# Altium schematic symbol library analog-devices.SCHLIB: 264 symbols (part 3 of 4)
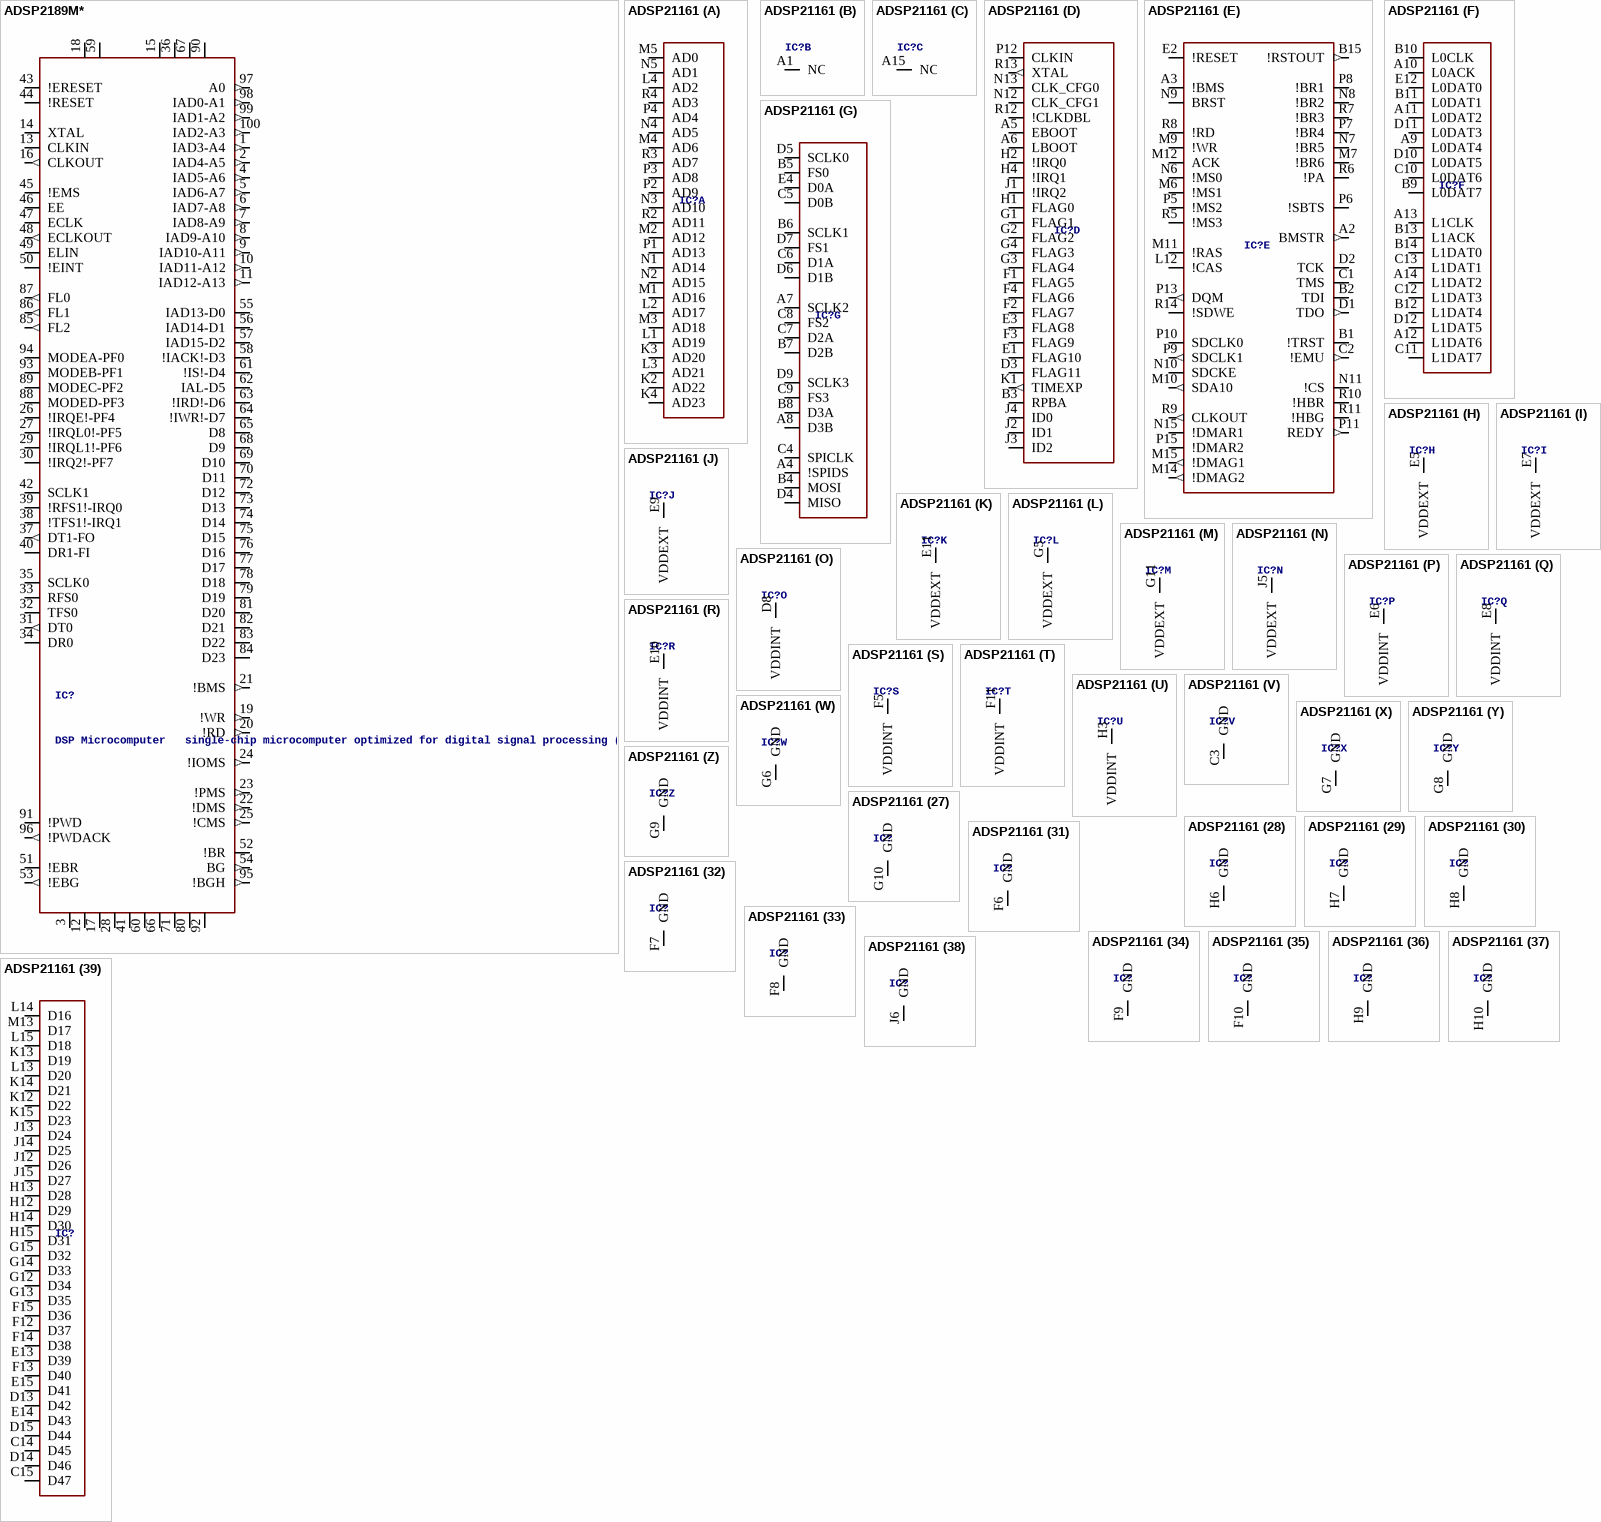
[diagram p41: symbols ADSP2189M* to ADSP21161]

## ADSP2189M*
designator IC?, comment DSP Microcomputer   single-chip microcomputer optimized for digital signal processing (DSP)
MPN: ADSP-2189MBST-266; MPN: ADSP-2189MKST-300; MF: ALTERA CORPORATION; OC_FARNELL: 1465571; OC_NEWARK: 98B1516; OC_FARNELL: 1465572; OC_NEWARK: 98B7141
footprint LQFP100
pins: 1 IAD3-A4 (out), 2 IAD4-A5 (out), 3 GND (power), 4 IAD5-A6 (out), 5 IAD6-A7 (out), 6 IAD7-A8 (out), 7 IAD8-A9 (out), 8 IAD9-A10 (out), 9 IAD10-A11 (out), 10 IAD11-A12 (out), 11 IAD12-A13 (out), 12 GND@1 (power), 13 CLKIN, 14 XTAL, 15 VDDEXT (power), 16 CLKOUT (out), 17 GND@2 (power), 18 VDDINT (power), 19 !WR (out), 20 !RD (out), 21 !BMS (out), 22 !DMS (out), 23 !PMS (out), 24 !IOMS (out), 25 !CMS (out), 26 !IRQE!-PF4, 27 !IRQL0!-PF5, 28 GND@3 (power), 29 !IRQL1!-PF6, 30 !IRQ2!-PF7, 31 DT0 (out), 32 TFS0, 33 RFS0, 34 DR0, 35 SCLK0, 36 VDDEXT@1 (power), 37 DT1-FO (out), 38 !TFS1!-IRQ1, 39 !RFS1!-IRQ0, 40 DR1-FI, 41 GND@4 (power), 42 SCLK1, 43 !ERESET, 44 !RESET, 45 !EMS, 46 EE, 47 ECLK, 48 ECLKOUT (out), 49 ELIN, 50 !EINT, 51 !EBR, 52 !BR, 53 !EBG (out), 54 BG (out), 55 IAD13-D0, 56 IAD14-D1, 57 IAD15-D2, 58 !IACK!-D3, 59 VDDINT@1 (power), 60 GND@5 (power), 61 !IS!-D4, 62 IAL-D5, 63 !IRD!-D6, 64 !IWR!-D7, 65 D8, 66 GND@6 (power), 67 VDDEXT@2 (power), 68 D9, 69 D10, 70 D11, 71 GND@7 (power), 72 D12, 73 D13, 74 D14, 75 D15, 76 D16, 77 D17, 78 D18, 79 D19, 80 GND@8 (power), 81 D20, 82 D21, 83 D22, 84 D23, 85 FL2 (out), 86 FL1 (out), 87 FL0 (out), 88 MODED-PF3, 89 MODEC-PF2, 90 VDDEXT@3 (power), 91 !PWD, 92 GND@9 (power), 93 MODEB-PF1, 94 MODEA-PF0, 95 !BGH (out), 96 !PWDACK (out), 97 A0 (out), 98 IAD0-A1 (out), 99 IAD1-A2 (out), 100 IAD2-A3 (out)

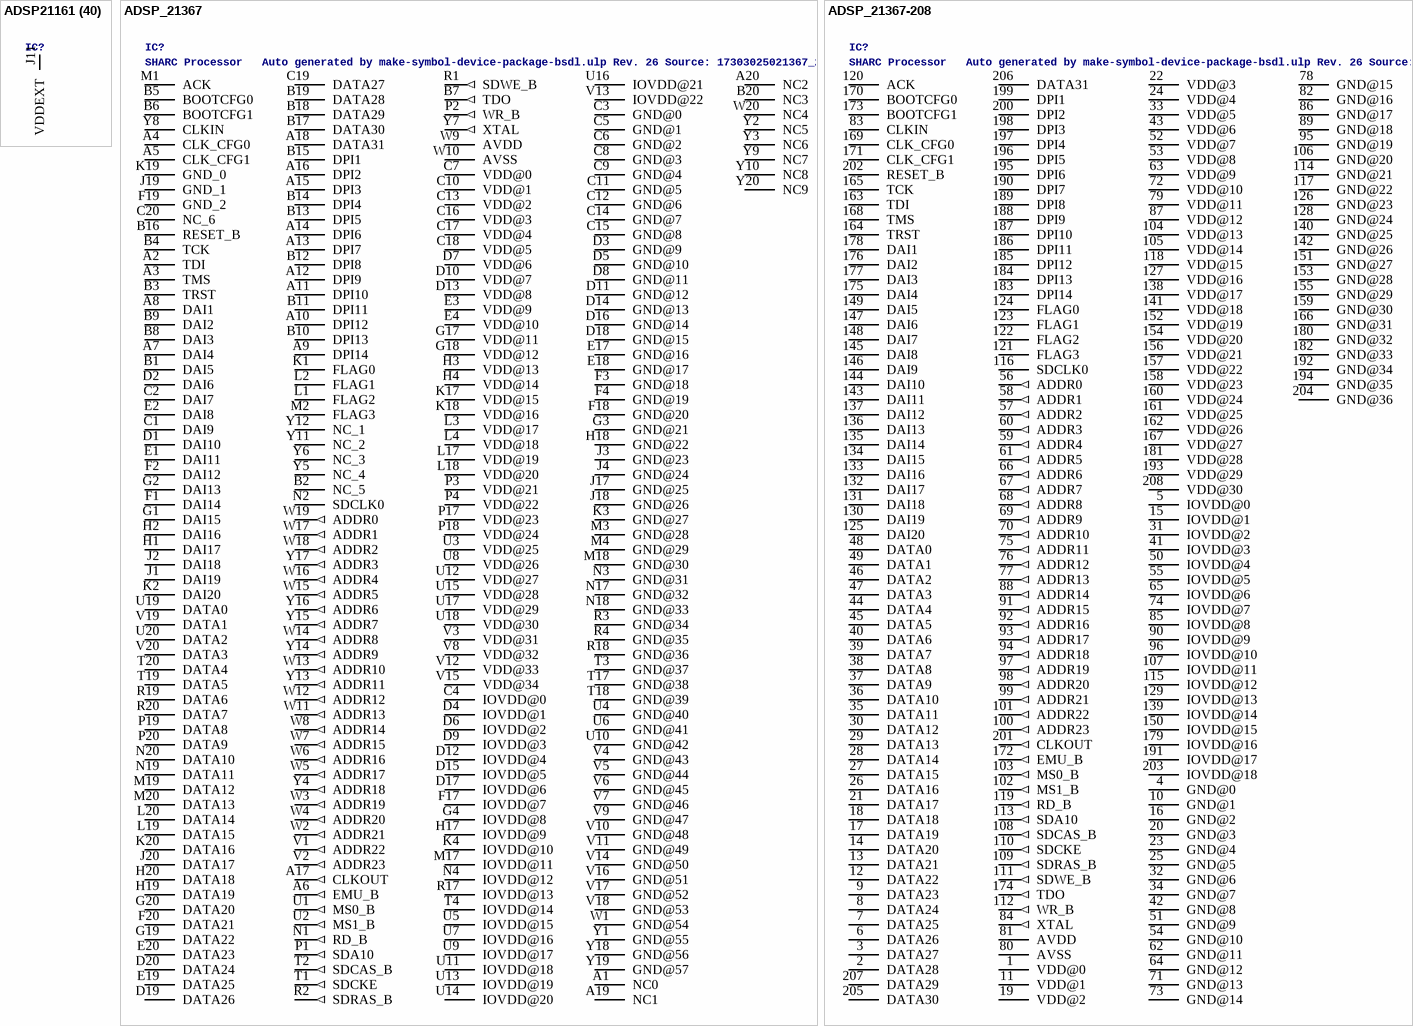
[diagram p25: symbols ADSP21161 to ADSP_21367-208]

## ADSP21161
designator IC?, comment DSP Microcomputer  (value not drawn)
MPN: ADSP-21161NCCA-100; MF: ALTERA CORPORATION; OC_FARNELL: 1465539; OC_NEWARK: 02H1229
footprint MBGA225
part A pins: K2 AD22 (hiz), K3 AD20 (hiz), K4 AD23 (hiz), L1 AD19 (hiz), L2 AD17 (hiz), L3 AD21 (hiz), L4 AD2 (hiz), M1 AD16 (hiz), M2 AD12 (hiz), M3 AD18 (hiz), M4 AD6 (hiz), M5 AD0 (hiz), N1 AD14 (hiz), N2 AD15 (hiz), N3 AD10 (hiz), N4 AD5 (hiz), N5 AD1 (hiz), P1 AD13 (hiz), P2 AD9 (hiz), P3 AD8 (hiz), P4 AD4 (hiz), R2 AD11 (hiz), R3 AD7 (hiz), R4 AD3 (hiz)
part B pins: A1 NC
part C pins: A15 NC
part D pins: A5 EBOOT, A6 LBOOT, B3 RPBA, D3 FLAG11, E1 FLAG10, E3 FLAG8, F1 FLAG5, F2 FLAG7, F3 FLAG9, F4 FLAG6, G1 FLAG1, G2 FLAG2, G3 FLAG4, G4 FLAG3, H1 FLAG0, H2 !IRQ0, H4 !IRQ1, J1 !IRQ2, J2 ID1, J3 ID2, J4 ID0, K1 TIMEXP (out), N12 CLK_CFG1, N13 CLK_CFG0, P12 CLKIN, R12 !CLKDBL, R13 XTAL (out)
part E pins: A2 BMSTR (out), A3 !BMS, B1 !TRST, B2 TDI, B15 !RSTOUT (out), C1 TMS, C2 !EMU (out), D1 TDO (out), D2 TCK, E2 !RESET, L12 !CAS, M6 !MS1 (hiz), M7 !BR6, M9 !WR (hiz), M10 SDA10 (out), M11 !RAS, M12 ACK, M14 !DMAG2 (out), M15 !DMAG1 (out), N6 !MS0 (hiz), N7 !BR5, N8 !BR2, N9 BRST (hiz), N10 SDCKE, N11 !CS, N15 !DMAR1, P5 !MS2 (hiz), P6 !SBTS, P7 !BR4, P8 !BR1, P9 SDCLK1 (out), P10 SDCLK0, P11 REDY (out), P13 DQM (out), P15 !DMAR2, R5 !MS3 (hiz), R6 !PA, R7 !BR3, R8 !RD (hiz), R9 CLKOUT (out), R10 !HBR, R11 !HBG, R14 !SDWE
part F pins: A9 L0DAT4, A10 L0ACK, A11 L0DAT2, A12 L1DAT6, A13 L1CLK, A14 L1DAT2, B9 L0DAT7, B10 L0CLK, B11 L0DAT1, B12 L1DAT4, B13 L1ACK, B14 L1DAT0, C10 L0DAT6, C11 L1DAT7, C12 L1DAT3, C13 L1DAT1, D10 L0DAT5, D11 L0DAT3, D12 L1DAT5, E12 L0DAT0
part G pins: A4 !SPIDS, A7 SCLK2, A8 D3B, B4 MOSI, B5 FS0, B6 SCLK1, B7 D2B, B8 D3A, C4 SPICLK, C5 D0B, C6 D1A, C7 D2A, C8 FS2, C9 FS3, D4 MISO, D5 SCLK0, D6 D1B, D7 FS1, D9 SCLK3, E4 D0A
part H pins: E5 VDDEXT (power)
part I pins: E7 VDDEXT (power)
part J pins: E9 VDDEXT (power)
part K pins: E11 VDDEXT (power)
part L pins: G5 VDDEXT (power)
part M pins: G11 VDDEXT (power)
part N pins: J5 VDDEXT (power)
part O pins: D8 VDDINT (power)
part P pins: E6 VDDINT (power)
part Q pins: E8 VDDINT (power)
part R pins: E10 VDDINT (power)
part S pins: F5 VDDINT (power)
part T pins: F11 VDDINT (power)
part U pins: H3 VDDINT (power)
part V pins: C3 GND (power)
part W pins: G6 GND (power)
part X pins: G7 GND (power)
part Y pins: G8 GND (power)
part Z pins: G9 GND (power)
part 27 pins: G10 GND (power)
part 28 pins: H6 GND (power)
part 29 pins: H7 GND (power)
part 30 pins: H8 GND (power)
part 31 pins: F6 GND (power)
part 32 pins: F7 GND (power)
part 33 pins: F8 GND (power)
part 34 pins: F9 GND (power)
part 35 pins: F10 GND (power)
part 36 pins: H9 GND (power)
part 37 pins: H10 GND (power)
part 38 pins: J6 GND (power)
part 39 pins: C14 D45 (hiz), C15 D47 (hiz), D13 D42 (hiz), D14 D46 (hiz), D15 D44 (hiz), E13 D39 (hiz), E14 D43 (hiz), E15 D41 (hiz), F12 D37 (hiz), F13 D40 (hiz), F14 D38 (hiz), F15 D36 (hiz), G12 D34 (hiz), G13 D35 (hiz), G14 D33 (hiz), G15 D32 (hiz), H12 D29 (hiz), H13 D28 (hiz), H14 D30 (hiz), H15 D31 (hiz), J12 D26 (hiz), J13 D24 (hiz), J14 D25 (hiz), J15 D27 (hiz), K12 D22 (hiz), K13 D19 (hiz), K14 D21 (hiz), K15 D23 (hiz), L13 D20 (hiz), L14 D16 (hiz), L15 D18 (hiz), M13 D17 (hiz)
part 40 pins: J11 VDDEXT (power)
part 41 pins: L5 VDDEXT (power)
part 42 pins: L7 VDDEXT (power)
part 43 pins: L9 VDDEXT (power)
part 44 pins: L11 VDDEXT (power)
part 45 pins: H5 VDDINT (power)
part 46 pins: H11 VDDINT (power)
part 47 pins: K5 VDDINT (power)
part 48 pins: K11 VDDINT (power)
part 49 pins: L6 VDDINT (power)
part 50 pins: L8 VDDINT (power)
part 51 pins: J7 GND (power)
part 52 pins: J8 GND (power)
part 53 pins: J9 GND (power)
part 54 pins: J10 GND (power)
part 55 pins: K6 GND (power)
part 56 pins: K7 GND (power)
part 57 pins: K8 GND (power)
part 58 pins: K9 GND (power)
part 59 pins: K10 GND (power)
part 60 pins: M8 VDDEXT (power)
part 61 pins: L10 VDDINT (power)
part 62 pins: N14 AVDD (power)
part 63 pins: P14 AGND (power)
part 64 pins: R1 NC
part 65 pins: R15 NC

## ADSP_21367
designator IC?, comment SHARC Processor   Auto generated by make-symbol-device-package-bsdl.ulp Rev. 26 Source: 17303025021367_256ballSBGA_bsdl_PrA_0106.txt
OC_FARNELL: unknown; OC_NEWARK: unknown
footprint BP-256
pins: A1 NC0, A2 TDI, A3 TMS, A4 CLK_CFG0, A5 CLK_CFG1, A6 EMU_B (out), A7 DAI4, A8 DAI1, A9 DPI14, A10 DPI12, A11 DPI10, A12 DPI9, A13 DPI7, A14 DPI6, A15 DPI3, A16 DPI2, A17 CLKOUT (out), A18 DATA31, A19 NC1, A20 NC2, B1 DAI5, B2 NC_5, B3 TRST, B4 TCK, B5 BOOTCFG0, B6 BOOTCFG1, B7 TDO (out), B8 DAI3, B9 DAI2, B10 DPI13, B11 DPI11, B12 DPI8, B13 DPI5, B14 DPI4, B15 DPI1, B16 RESET_B, B17 DATA30, B18 DATA29, B19 DATA28, B20 NC3, C1 DAI9, C2 DAI7, C3 GND@0 (power), C4 IOVDD@0 (power), C5 GND@1 (power), C6 GND@2 (power), C7 VDD@0 (power), C8 GND@3 (power), C9 GND@4 (power), C10 VDD@1 (power), C11 GND@5 (power), C12 GND@6 (power), C13 VDD@2 (power), C14 GND@7 (power), C15 GND@8 (power), C16 VDD@3 (power), C17 VDD@4 (power), C18 VDD@5 (power), C19 DATA27, C20 NC_6, D1 DAI10, D2 DAI6, D3 GND@9 (power), D4 IOVDD@1 (power), D5 GND@10 (power), D6 IOVDD@2 (power), D7 VDD@6 (power), D8 GND@11 (power), D9 IOVDD@3 (power), D10 VDD@7 (power), D11 GND@12 (power), D12 IOVDD@4 (power), D13 VDD@8 (power), D14 GND@13 (power), D15 IOVDD@5 (power), D16 GND@14 (power), D17 IOVDD@6 (power), D18 GND@15 (power), D19 DATA26, D20 DATA24, E1 DAI11, E2 DAI8, E3 VDD@9 (power), E4 VDD@10 (power), E17 GND@16 (power), E18 GND@17 (power), E19 DATA25, E20 DATA23, F1 DAI14, F2 DAI12, F3 GND@18 (power), F4 GND@19 (power), F17 IOVDD@7 (power), F18 GND@20 (power), F19 GND_2, F20 DATA21, G1 DAI15, G2 DAI13, G3 GND@21 (power), G4 IOVDD@8 (power), G17 VDD@11 (power), G18 VDD@12 (power), G19 DATA22, G20 DATA20, H1 DAI17, H2 DAI16, H3 VDD@13 (power), H4 VDD@14 (power), H17 IOVDD@9 (power), H18 GND@22 (power), H19 DATA19, H20 DATA18, J1 DAI19, J2 DAI18, J3 GND@23 (power), J4 GND@24 (power), J17 GND@25 (power), J18 GND@26 (power), J19 GND_1, J20 DATA17, K1 FLAG0, K2 DAI20, K3 GND@27 (power), K4 IOVDD@10 (power), K17 VDD@15 (power), K18 VDD@16 (power), K19 GND_0, K20 DATA16, L1 FLAG2, L2 FLAG1, L3 VDD@17 (power), L4 VDD@18 (power), L17 VDD@19 (power), L18 VDD@20 (power), L19 DATA15, L20 DATA14, M1 ACK, M2 FLAG3, M3 GND@28 (power), M4 GND@29 (power), M17 IOVDD@11 (power), M18 GND@30 (power), M19 DATA12, M20 DATA13, N1 RD_B (out), N2 SDCLK0, N3 GND@31 (power), N4 IOVDD@12 (power), N17 GND@32 (power), N18 GND@33 (power), N19 DATA11, N20 DATA10, P1 SDA10 (out), P2 WR_B (out), P3 VDD@21 (power), P4 VDD@22 (power), P17 VDD@23 (power), P18 VDD@24 (power), P19 DATA8, P20 DATA9, R1 SDWE_B (out), R2 SDRAS_B (out), R3 GND@34 (power), R4 GND@35 (power), R17 IOVDD@13 (power), R18 GND@36 (power), R19 DATA6, R20 DATA7, T1 SDCKE (out), T2 SDCAS_B (out), T3 GND@37 (power), T4 IOVDD@14 (power), T17 GND@38 (power), T18 GND@39 (power), T19 DATA5, T20 DATA4, U1 MS0_B (out), U2 MS1_B (out), U3 VDD@25 (power), U4 GND@40 (power), U5 IOVDD@15 (power), U6 GND@41 (power), U7 IOVDD@16 (power), U8 VDD@26 (power), U9 IOVDD@17 (power), U10 GND@42 (power), U11 IOVDD@18 (power), U12 VDD@27 (power), U13 IOVDD@19 (power), U14 IOVDD@20 (power), U15 VDD@28 (power), U16 IOVDD@21 (power), U17 VDD@29 (power), U18 VDD@30 (power), U19 DATA0, U20 DATA2, V1 ADDR22 (out), V2 ADDR23 (out), V3 VDD@31 (power), V4 GND@43 (power), V5 GND@44 (power), V6 GND@45 (power), V7 GND@46 (power), V8 VDD@32 (power), V9 GND@47 (power), V10 GND@48 (power), V11 GND@49 (power), V12 VDD@33 (power), V13 IOVDD@22 (power), V14 GND@50 (power), V15 VDD@34 (power), V16 GND@51 (power), V17 GND@52 (power), V18 GND@53 (power), V19 DATA1, V20 DATA3, W1 GND@54 (power), W2 ADDR21 (out), W3 ADDR19 (out), W4 ADDR20 (out), W5 ADDR17 (out), W6 ADDR16 (out), W7 ADDR15 (out), W8 ADDR14 (out), W9 AVDD (power), W10 AVSS (power), W11 ADDR13 (out), W12 ADDR12 (out), W13 ADDR10 (out), W14 ADDR8 (out), W15 ADDR5 (out), W16 ADDR4 (out), W17 ADDR1 (out), W18 ADDR2 (out), W19 ADDR0 (out), W20 NC4, Y1 GND@55 (power), Y2 NC5, Y3 NC6, Y4 ADDR18 (out), Y5 NC_4, Y6 NC_3, Y7 XTAL (out), Y8 CLKIN, Y9 NC7, Y10 NC8, Y11 NC_2, Y12 NC_1, Y13 ADDR11 (out), Y14 ADDR9 (out), Y15 ADDR7 (out), Y16 ADDR6 (out), Y17 ADDR3 (out), Y18 GND@56 (power), Y19 GND@57 (power), Y20 NC9

## ADSP_21367-208
designator IC?, comment SHARC Processor   Auto generated by make-symbol-device-package-bsdl.ulp Rev. 26 Source: 71207126721367_208pinMQFP_bsdl_PrA_0106.txt
OC_FARNELL: 1776212; OC_NEWARK: unknown
footprint LQFP208
pins: 1 VDD@0 (power), 2 DATA28, 3 DATA27, 4 GND@0 (power), 5 IOVDD@0 (power), 6 DATA26, 7 DATA25, 8 DATA24, 9 DATA23, 10 GND@1 (power), 11 VDD@1 (power), 12 DATA22, 13 DATA21, 14 DATA20, 15 IOVDD@1 (power), 16 GND@2 (power), 17 DATA19, 18 DATA18, 19 VDD@2 (power), 20 GND@3 (power), 21 DATA17, 22 VDD@3 (power), 23 GND@4 (power), 24 VDD@4 (power), 25 GND@5 (power), 26 DATA16, 27 DATA15, 28 DATA14, 29 DATA13, 30 DATA12, 31 IOVDD@2 (power), 32 GND@6 (power), 33 VDD@5 (power), 34 GND@7 (power), 35 DATA11, 36 DATA10, 37 DATA9, 38 DATA8, 39 DATA7, 40 DATA6, 41 IOVDD@3 (power), 42 GND@8 (power), 43 VDD@6 (power), 44 DATA4, 45 DATA5, 46 DATA2, 47 DATA3, 48 DATA0, 49 DATA1, 50 IOVDD@4 (power), 51 GND@9 (power), 52 VDD@7 (power), 53 VDD@8 (power), 54 GND@10 (power), 55 IOVDD@5 (power), 56 ADDR0 (out), 57 ADDR2 (out), 58 ADDR1 (out), 59 ADDR4 (out), 60 ADDR3 (out), 61 ADDR5 (out), 62 GND@11 (power), 63 VDD@9 (power), 64 GND@12 (power), 65 IOVDD@6 (power), 66 ADDR6 (out), 67 ADDR7 (out), 68 ADDR8 (out), 69 ADDR9 (out), 70 ADDR10 (out), 71 GND@13 (power), 72 VDD@10 (power), 73 GND@14 (power), 74 IOVDD@7 (power), 75 ADDR11 (out), 76 ADDR12 (out), 77 ADDR13 (out), 78 GND@15 (power), 79 VDD@11 (power), 80 AVSS (power), 81 AVDD (power), 82 GND@16 (power), 83 CLKIN, 84 XTAL (out), 85 IOVDD@8 (power), 86 GND@17 (power), 87 VDD@12 (power), 88 ADDR14 (out), 89 GND@18 (power), 90 IOVDD@9 (power), 91 ADDR15 (out), 92 ADDR16 (out), 93 ADDR17 (out), 94 ADDR18 (out), 95 GND@19 (power), 96 IOVDD@10 (power), 97 ADDR19 (out), 98 ADDR20 (out), 99 ADDR21 (out), 100 ADDR23 (out), 101 ADDR22 (out), 102 MS1_B (out), 103 MS0_B (out), 104 VDD@13 (power), 105 VDD@14 (power), 106 GND@20 (power), 107 IOVDD@11 (power), 108 SDCAS_B (out), 109 SDRAS_B (out), 110 SDCKE (out), 111 SDWE_B (out), 112 WR_B (out), 113 SDA10 (out), 114 GND@21 (power), 115 IOVDD@12 (power), 116 SDCLK0, 117 GND@22 (power), 118 VDD@15 (power), 119 RD_B (out), 120 ACK, 121 FLAG3, 122 FLAG2, 123 FLAG1, 124 FLAG0, 125 DAI20, 126 GND@23 (power), 127 VDD@16 (power), 128 GND@24 (power), 129 IOVDD@13 (power), 130 DAI19, 131 DAI18, 132 DAI17, 133 DAI16, 134 DAI15, 135 DAI14, 136 DAI13, 137 DAI12, 138 VDD@17 (power), 139 IOVDD@14 (power), 140 GND@25 (power), 141 VDD@18 (power), 142 GND@26 (power), 143 DAI11, 144 DAI10, 145 DAI8, 146 DAI9, 147 DAI6, 148 DAI7, 149 DAI5, 150 IOVDD@15 (power), 151 GND@27 (power), 152 VDD@19 (power), 153 GND@28 (power), 154 VDD@20 (power), 155 GND@29 (power), 156 VDD@21 (power), 157 VDD@22 (power), 158 VDD@23 (power), 159 GND@30 (power), 160 VDD@24 (power), 161 VDD@25 (power), 162 VDD@26 (power), 163 TDI, 164 TRST, 165 TCK, 166 GND@31 (power), 167 VDD@27 (power), 168 TMS, 169 CLK_CFG0, 170 BOOTCFG0, 171 CLK_CFG1, 172 EMU_B (out), 173 BOOTCFG1, 174 TDO (out), 175 DAI4, 176 DAI2, 177 DAI3, 178 DAI1, 179 IOVDD@16 (power), 180 GND@32 (power), 181 VDD@28 (power), 182 GND@33 (power), 183 DPI14, 184 DPI13, 185 DPI12, 186 DPI11, 187 DPI10, 188 DPI9, 189 DPI8, 190 DPI7, 191 IOVDD@17 (power), 192 GND@34 (power), 193 VDD@29 (power), 194 GND@35 (power), 195 DPI6, 196 DPI5, 197 DPI4, 198 DPI3, 199 DPI1, 200 DPI2, 201 CLKOUT (out), 202 RESET_B, 203 IOVDD@18 (power), 204 GND@36 (power), 205 DATA30, 206 DATA31, 207 DATA29, 208 VDD@30 (power)

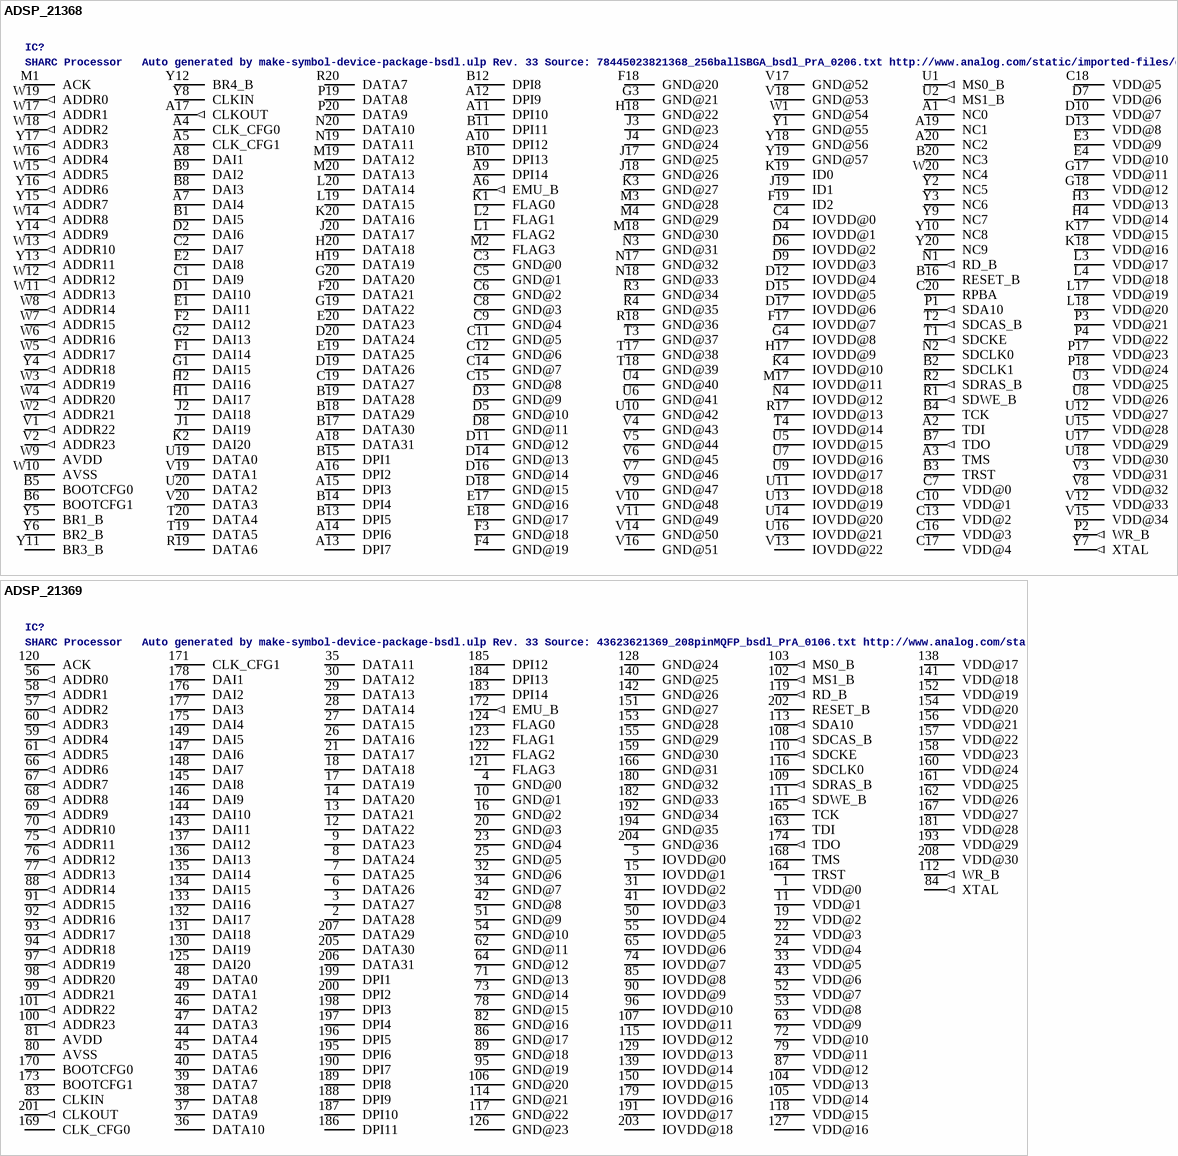
[diagram p26: symbols ADSP_21368 to ADSP_21369]

## ADSP_21368
designator IC?, comment SHARC Processor   Auto generated by make-symbol-device-package-bsdl.ulp Rev. 33 Source: 78445023821368_256ballSBGA_bsdl_PrA_0206.txt http://www.analog.com/static/imported-files/data_sheets/ADSP-21367_21368_21369.pdf
OC_FARNELL: 1776206; OC_NEWARK: unknown
footprint BGA_256
pins: A1 NC0, A2 TDI, A3 TMS, A4 CLK_CFG0, A5 CLK_CFG1, A6 EMU_B (out), A7 DAI4, A8 DAI1, A9 DPI14, A10 DPI12, A11 DPI10, A12 DPI9, A13 DPI7, A14 DPI6, A15 DPI3, A16 DPI2, A17 CLKOUT (out), A18 DATA31, A19 NC1, A20 NC2, B1 DAI5, B2 SDCLK1, B3 TRST, B4 TCK, B5 BOOTCFG0, B6 BOOTCFG1, B7 TDO (out), B8 DAI3, B9 DAI2, B10 DPI13, B11 DPI11, B12 DPI8, B13 DPI5, B14 DPI4, B15 DPI1, B16 RESET_B, B17 DATA30, B18 DATA29, B19 DATA28, B20 NC3, C1 DAI9, C2 DAI7, C3 GND@0 (power), C4 IOVDD@0 (power), C5 GND@1 (power), C6 GND@2 (power), C7 VDD@0 (power), C8 GND@3 (power), C9 GND@4 (power), C10 VDD@1 (power), C11 GND@5 (power), C12 GND@6 (power), C13 VDD@2 (power), C14 GND@7 (power), C15 GND@8 (power), C16 VDD@3 (power), C17 VDD@4 (power), C18 VDD@5 (power), C19 DATA27, C20 RPBA, D1 DAI10, D2 DAI6, D3 GND@9 (power), D4 IOVDD@1 (power), D5 GND@10 (power), D6 IOVDD@2 (power), D7 VDD@6 (power), D8 GND@11 (power), D9 IOVDD@3 (power), D10 VDD@7 (power), D11 GND@12 (power), D12 IOVDD@4 (power), D13 VDD@8 (power), D14 GND@13 (power), D15 IOVDD@5 (power), D16 GND@14 (power), D17 IOVDD@6 (power), D18 GND@15 (power), D19 DATA26, D20 DATA24, E1 DAI11, E2 DAI8, E3 VDD@9 (power), E4 VDD@10 (power), E17 GND@16 (power), E18 GND@17 (power), E19 DATA25, E20 DATA23, F1 DAI14, F2 DAI12, F3 GND@18 (power), F4 GND@19 (power), F17 IOVDD@7 (power), F18 GND@20 (power), F19 ID2, F20 DATA21, G1 DAI15, G2 DAI13, G3 GND@21 (power), G4 IOVDD@8 (power), G17 VDD@11 (power), G18 VDD@12 (power), G19 DATA22, G20 DATA20, H1 DAI17, H2 DAI16, H3 VDD@13 (power), H4 VDD@14 (power), H17 IOVDD@9 (power), H18 GND@22 (power), H19 DATA19, H20 DATA18, J1 DAI19, J2 DAI18, J3 GND@23 (power), J4 GND@24 (power), J17 GND@25 (power), J18 GND@26 (power), J19 ID1, J20 DATA17, K1 FLAG0, K2 DAI20, K3 GND@27 (power), K4 IOVDD@10 (power), K17 VDD@15 (power), K18 VDD@16 (power), K19 ID0, K20 DATA16, L1 FLAG2, L2 FLAG1, L3 VDD@17 (power), L4 VDD@18 (power), L17 VDD@19 (power), L18 VDD@20 (power), L19 DATA15, L20 DATA14, M1 ACK, M2 FLAG3, M3 GND@28 (power), M4 GND@29 (power), M17 IOVDD@11 (power), M18 GND@30 (power), M19 DATA12, M20 DATA13, N1 RD_B (out), N2 SDCLK0, N3 GND@31 (power), N4 IOVDD@12 (power), N17 GND@32 (power), N18 GND@33 (power), N19 DATA11, N20 DATA10, P1 SDA10 (out), P2 WR_B (out), P3 VDD@21 (power), P4 VDD@22 (power), P17 VDD@23 (power), P18 VDD@24 (power), P19 DATA8, P20 DATA9, R1 SDWE_B (out), R2 SDRAS_B (out), R3 GND@34 (power), R4 GND@35 (power), R17 IOVDD@13 (power), R18 GND@36 (power), R19 DATA6, R20 DATA7, T1 SDCKE (out), T2 SDCAS_B (out), T3 GND@37 (power), T4 IOVDD@14 (power), T17 GND@38 (power), T18 GND@39 (power), T19 DATA5, T20 DATA4, U1 MS0_B (out), U2 MS1_B (out), U3 VDD@25 (power), U4 GND@40 (power), U5 IOVDD@15 (power), U6 GND@41 (power), U7 IOVDD@16 (power), U8 VDD@26 (power), U9 IOVDD@17 (power), U10 GND@42 (power), U11 IOVDD@18 (power), U12 VDD@27 (power), U13 IOVDD@19 (power), U14 IOVDD@20 (power), U15 VDD@28 (power), U16 IOVDD@21 (power), U17 VDD@29 (power), U18 VDD@30 (power), U19 DATA0, U20 DATA2, V1 ADDR22 (out), V2 ADDR23 (out), V3 VDD@31 (power), V4 GND@43 (power), V5 GND@44 (power), V6 GND@45 (power), V7 GND@46 (power), V8 VDD@32 (power), V9 GND@47 (power), V10 GND@48 (power), V11 GND@49 (power), V12 VDD@33 (power), V13 IOVDD@22 (power), V14 GND@50 (power), V15 VDD@34 (power), V16 GND@51 (power), V17 GND@52 (power), V18 GND@53 (power), V19 DATA1, V20 DATA3, W1 GND@54 (power), W2 ADDR21 (out), W3 ADDR19 (out), W4 ADDR20 (out), W5 ADDR17 (out), W6 ADDR16 (out), W7 ADDR15 (out), W8 ADDR14 (out), W9 AVDD (power), W10 AVSS (power), W11 ADDR13 (out), W12 ADDR12 (out), W13 ADDR10 (out), W14 ADDR8 (out), W15 ADDR5 (out), W16 ADDR4 (out), W17 ADDR1 (out), W18 ADDR2 (out), W19 ADDR0 (out), W20 NC4, Y1 GND@55 (power), Y2 NC5, Y3 NC6, Y4 ADDR18 (out), Y5 BR1_B, Y6 BR2_B, Y7 XTAL (out), Y8 CLKIN, Y9 NC7, Y10 NC8, Y11 BR3_B, Y12 BR4_B, Y13 ADDR11 (out), Y14 ADDR9 (out), Y15 ADDR7 (out), Y16 ADDR6 (out), Y17 ADDR3 (out), Y18 GND@56 (power), Y19 GND@57 (power), Y20 NC9

## ADSP_21369
designator IC?, comment SHARC Processor   Auto generated by make-symbol-device-package-bsdl.ulp Rev. 33 Source: 43623621369_208pinMQFP_bsdl_PrA_0106.txt http://www.analog.com/static/imported-files/data_sheets/ADSP-21367_21368_21369.pdf
OC_FARNELL: unknown; OC_NEWARK: unknown
footprint LQFP208
pins: 1 VDD@0 (power), 2 DATA28, 3 DATA27, 4 GND@0 (power), 5 IOVDD@0 (power), 6 DATA26, 7 DATA25, 8 DATA24, 9 DATA23, 10 GND@1 (power), 11 VDD@1 (power), 12 DATA22, 13 DATA21, 14 DATA20, 15 IOVDD@1 (power), 16 GND@2 (power), 17 DATA19, 18 DATA18, 19 VDD@2 (power), 20 GND@3 (power), 21 DATA17, 22 VDD@3 (power), 23 GND@4 (power), 24 VDD@4 (power), 25 GND@5 (power), 26 DATA16, 27 DATA15, 28 DATA14, 29 DATA13, 30 DATA12, 31 IOVDD@2 (power), 32 GND@6 (power), 33 VDD@5 (power), 34 GND@7 (power), 35 DATA11, 36 DATA10, 37 DATA9, 38 DATA8, 39 DATA7, 40 DATA6, 41 IOVDD@3 (power), 42 GND@8 (power), 43 VDD@6 (power), 44 DATA4, 45 DATA5, 46 DATA2, 47 DATA3, 48 DATA0, 49 DATA1, 50 IOVDD@4 (power), 51 GND@9 (power), 52 VDD@7 (power), 53 VDD@8 (power), 54 GND@10 (power), 55 IOVDD@5 (power), 56 ADDR0 (out), 57 ADDR2 (out), 58 ADDR1 (out), 59 ADDR4 (out), 60 ADDR3 (out), 61 ADDR5 (out), 62 GND@11 (power), 63 VDD@9 (power), 64 GND@12 (power), 65 IOVDD@6 (power), 66 ADDR6 (out), 67 ADDR7 (out), 68 ADDR8 (out), 69 ADDR9 (out), 70 ADDR10 (out), 71 GND@13 (power), 72 VDD@10 (power), 73 GND@14 (power), 74 IOVDD@7 (power), 75 ADDR11 (out), 76 ADDR12 (out), 77 ADDR13 (out), 78 GND@15 (power), 79 VDD@11 (power), 80 AVSS (power), 81 AVDD (power), 82 GND@16 (power), 83 CLKIN, 84 XTAL (out), 85 IOVDD@8 (power), 86 GND@17 (power), 87 VDD@12 (power), 88 ADDR14 (out), 89 GND@18 (power), 90 IOVDD@9 (power), 91 ADDR15 (out), 92 ADDR16 (out), 93 ADDR17 (out), 94 ADDR18 (out), 95 GND@19 (power), 96 IOVDD@10 (power), 97 ADDR19 (out), 98 ADDR20 (out), 99 ADDR21 (out), 100 ADDR23 (out), 101 ADDR22 (out), 102 MS1_B (out), 103 MS0_B (out), 104 VDD@13 (power), 105 VDD@14 (power), 106 GND@20 (power), 107 IOVDD@11 (power), 108 SDCAS_B (out), 109 SDRAS_B (out), 110 SDCKE (out), 111 SDWE_B (out), 112 WR_B (out), 113 SDA10 (out), 114 GND@21 (power), 115 IOVDD@12 (power), 116 SDCLK0, 117 GND@22 (power), 118 VDD@15 (power), 119 RD_B (out), 120 ACK, 121 FLAG3, 122 FLAG2, 123 FLAG1, 124 FLAG0, 125 DAI20, 126 GND@23 (power), 127 VDD@16 (power), 128 GND@24 (power), 129 IOVDD@13 (power), 130 DAI19, 131 DAI18, 132 DAI17, 133 DAI16, 134 DAI15, 135 DAI14, 136 DAI13, 137 DAI12, 138 VDD@17 (power), 139 IOVDD@14 (power), 140 GND@25 (power), 141 VDD@18 (power), 142 GND@26 (power), 143 DAI11, 144 DAI10, 145 DAI8, 146 DAI9, 147 DAI6, 148 DAI7, 149 DAI5, 150 IOVDD@15 (power), 151 GND@27 (power), 152 VDD@19 (power), 153 GND@28 (power), 154 VDD@20 (power), 155 GND@29 (power), 156 VDD@21 (power), 157 VDD@22 (power), 158 VDD@23 (power), 159 GND@30 (power), 160 VDD@24 (power), 161 VDD@25 (power), 162 VDD@26 (power), 163 TDI, 164 TRST, 165 TCK, 166 GND@31 (power), 167 VDD@27 (power), 168 TMS, 169 CLK_CFG0, 170 BOOTCFG0, 171 CLK_CFG1, 172 EMU_B (out), 173 BOOTCFG1, 174 TDO (out), 175 DAI4, 176 DAI2, 177 DAI3, 178 DAI1, 179 IOVDD@16 (power), 180 GND@32 (power), 181 VDD@28 (power), 182 GND@33 (power), 183 DPI14, 184 DPI13, 185 DPI12, 186 DPI11, 187 DPI10, 188 DPI9, 189 DPI8, 190 DPI7, 191 IOVDD@17 (power), 192 GND@34 (power), 193 VDD@29 (power), 194 GND@35 (power), 195 DPI6, 196 DPI5, 197 DPI4, 198 DPI3, 199 DPI1, 200 DPI2, 201 CLKOUT (out), 202 RESET_B, 203 IOVDD@18 (power), 204 GND@36 (power), 205 DATA30, 206 DATA31, 207 DATA29, 208 VDD@30 (power)

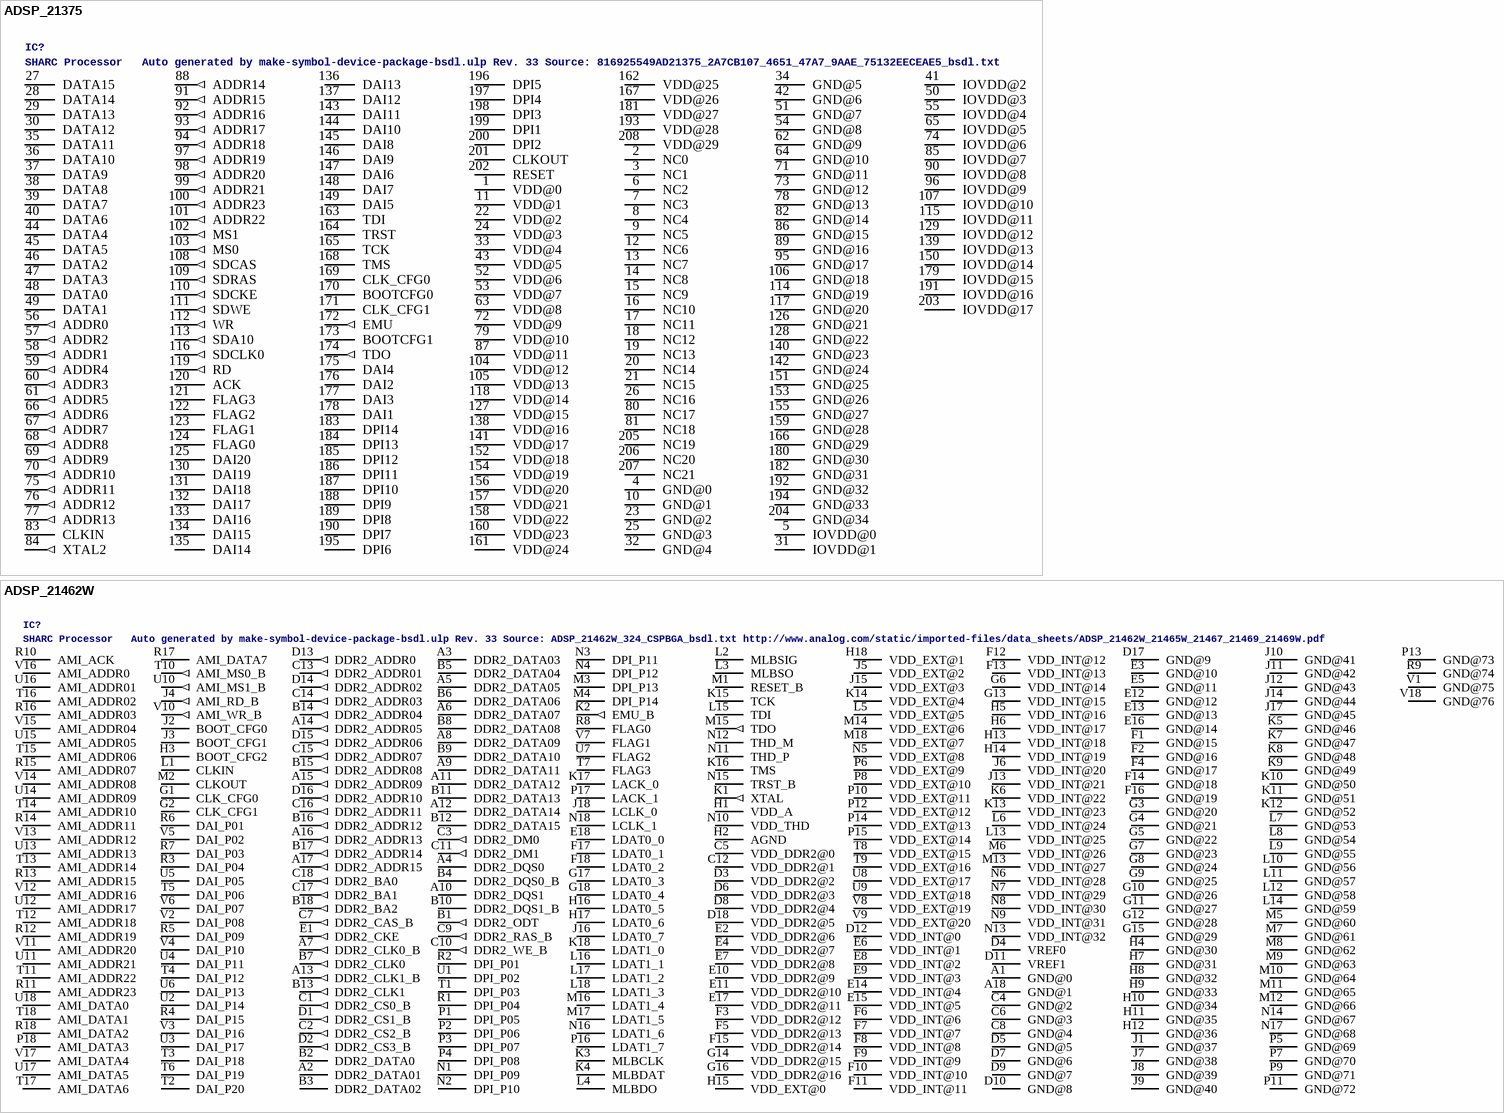
[diagram p27: symbols ADSP_21375 to ADSP_21462W]

## ADSP_21375
designator IC?, comment SHARC Processor   Auto generated by make-symbol-device-package-bsdl.ulp Rev. 33 Source: 816925549AD21375_2A7CB107_4651_47A7_9AAE_75132EECEAE5_bsdl.txt
OC_FARNELL: 1776212; OC_NEWARK: unknown
footprint LQFP208
pins: 1 VDD@0 (power), 2 NC0, 3 NC1, 4 GND@0 (power), 5 IOVDD@0 (power), 6 NC2, 7 NC3, 8 NC4, 9 NC5, 10 GND@1 (power), 11 VDD@1 (power), 12 NC6, 13 NC7, 14 NC8, 15 NC9, 16 NC10, 17 NC11, 18 NC12, 19 NC13, 20 NC14, 21 NC15, 22 VDD@2 (power), 23 GND@2 (power), 24 VDD@3 (power), 25 GND@3 (power), 26 NC16, 27 DATA15, 28 DATA14, 29 DATA13, 30 DATA12, 31 IOVDD@1 (power), 32 GND@4 (power), 33 VDD@4 (power), 34 GND@5 (power), 35 DATA11, 36 DATA10, 37 DATA9, 38 DATA8, 39 DATA7, 40 DATA6, 41 IOVDD@2 (power), 42 GND@6 (power), 43 VDD@5 (power), 44 DATA4, 45 DATA5, 46 DATA2, 47 DATA3, 48 DATA0, 49 DATA1, 50 IOVDD@3 (power), 51 GND@7 (power), 52 VDD@6 (power), 53 VDD@7 (power), 54 GND@8 (power), 55 IOVDD@4 (power), 56 ADDR0 (out), 57 ADDR2 (out), 58 ADDR1 (out), 59 ADDR4 (out), 60 ADDR3 (out), 61 ADDR5 (out), 62 GND@9 (power), 63 VDD@8 (power), 64 GND@10 (power), 65 IOVDD@5 (power), 66 ADDR6 (out), 67 ADDR7 (out), 68 ADDR8 (out), 69 ADDR9 (out), 70 ADDR10 (out), 71 GND@11 (power), 72 VDD@9 (power), 73 GND@12 (power), 74 IOVDD@6 (power), 75 ADDR11 (out), 76 ADDR12 (out), 77 ADDR13 (out), 78 GND@13 (power), 79 VDD@10 (power), 80 NC17, 81 NC18, 82 GND@14 (power), 83 CLKIN, 84 XTAL2 (out), 85 IOVDD@7 (power), 86 GND@15 (power), 87 VDD@11 (power), 88 ADDR14 (out), 89 GND@16 (power), 90 IOVDD@8 (power), 91 ADDR15 (out), 92 ADDR16 (out), 93 ADDR17 (out), 94 ADDR18 (out), 95 GND@17 (power), 96 IOVDD@9 (power), 97 ADDR19 (out), 98 ADDR20 (out), 99 ADDR21 (out), 100 ADDR23 (out), 101 ADDR22 (out), 102 MS1 (out), 103 MS0 (out), 104 VDD@12 (power), 105 VDD@13 (power), 106 GND@18 (power), 107 IOVDD@10 (power), 108 SDCAS (out), 109 SDRAS (out), 110 SDCKE (out), 111 SDWE (out), 112 WR (out), 113 SDA10 (out), 114 GND@19 (power), 115 IOVDD@11 (power), 116 SDCLK0 (out), 117 GND@20 (power), 118 VDD@14 (power), 119 RD (out), 120 ACK, 121 FLAG3, 122 FLAG2, 123 FLAG1, 124 FLAG0, 125 DAI20, 126 GND@21 (power), 127 VDD@15 (power), 128 GND@22 (power), 129 IOVDD@12 (power), 130 DAI19, 131 DAI18, 132 DAI17, 133 DAI16, 134 DAI15, 135 DAI14, 136 DAI13, 137 DAI12, 138 VDD@16 (power), 139 IOVDD@13 (power), 140 GND@23 (power), 141 VDD@17 (power), 142 GND@24 (power), 143 DAI11, 144 DAI10, 145 DAI8, 146 DAI9, 147 DAI6, 148 DAI7, 149 DAI5, 150 IOVDD@14 (power), 151 GND@25 (power), 152 VDD@18 (power), 153 GND@26 (power), 154 VDD@19 (power), 155 GND@27 (power), 156 VDD@20 (power), 157 VDD@21 (power), 158 VDD@22 (power), 159 GND@28 (power), 160 VDD@23 (power), 161 VDD@24 (power), 162 VDD@25 (power), 163 TDI, 164 TRST, 165 TCK, 166 GND@29 (power), 167 VDD@26 (power), 168 TMS, 169 CLK_CFG0, 170 BOOTCFG0, 171 CLK_CFG1, 172 EMU (out), 173 BOOTCFG1, 174 TDO (out), 175 DAI4, 176 DAI2, 177 DAI3, 178 DAI1, 179 IOVDD@15 (power), 180 GND@30 (power), 181 VDD@27 (power), 182 GND@31 (power), 183 DPI14, 184 DPI13, 185 DPI12, 186 DPI11, 187 DPI10, 188 DPI9, 189 DPI8, 190 DPI7, 191 IOVDD@16 (power), 192 GND@32 (power), 193 VDD@28 (power), 194 GND@33 (power), 195 DPI6, 196 DPI5, 197 DPI4, 198 DPI3, 199 DPI1, 200 DPI2, 201 CLKOUT, 202 RESET, 203 IOVDD@17 (power), 204 GND@34 (power), 205 NC19, 206 NC20, 207 NC21, 208 VDD@29 (power)

## ADSP_21462W
designator IC?, comment SHARC Processor   Auto generated by make-symbol-device-package-bsdl.ulp Rev. 33 Source: ADSP_21462W_324_CSPBGA_bsdl.txt http://www.analog.com/static/imported-files/data_sheets/ADSP_21462W_21465W_21467_21469_21469W.pdf
OC_FARNELL: unknown; OC_NEWARK: unknown
footprint BGA_324_CSP
pins: A1 GND@0 (power), A2 DDR2_DATA01, A3 DDR2_DATA03, A4 DDR2_DQS0, A5 DDR2_DATA05, A6 DDR2_DATA07, A7 DDR2_CLK0_B (out), A8 DDR2_DATA09, A9 DDR2_DATA11, A10 DDR2_DQS1, A11 DDR2_DATA12, A12 DDR2_DATA14, A13 DDR2_CLK1_B (out), A14 DDR2_ADDR05 (out), A15 DDR2_ADDR09 (out), A16 DDR2_ADDR13 (out), A17 DDR2_ADDR15 (out), A18 GND@1 (power), B1 DDR2_ODT (out), B2 DDR2_DATA0, B3 DDR2_DATA02, B4 DDR2_DQS0_B, B5 DDR2_DATA04, B6 DDR2_DATA06, B7 DDR2_CLK0 (out), B8 DDR2_DATA08, B9 DDR2_DATA10, B10 DDR2_DQS1_B, B11 DDR2_DATA13, B12 DDR2_DATA15, B13 DDR2_CLK1 (out), B14 DDR2_ADDR04 (out), B15 DDR2_ADDR08 (out), B16 DDR2_ADDR12 (out), B17 DDR2_ADDR14 (out), B18 DDR2_BA2 (out), C1 DDR2_CS0_B (out), C2 DDR2_CS2_B (out), C3 DDR2_DM0 (out), C4 GND@2 (power), C5 VDD_DDR2@0 (power), C6 GND@3 (power), C7 DDR2_CAS_B (out), C8 GND@4 (power), C9 DDR2_RAS_B (out), C10 DDR2_WE_B (out), C11 DDR2_DM1 (out), C12 VDD_DDR2@1 (power), C13 DDR2_ADDR01 (out), C14 DDR2_ADDR03 (out), C15 DDR2_ADDR07 (out), C16 DDR2_ADDR11 (out), C17 DDR2_BA1 (out), C18 DDR2_BA0 (out), D1 DDR2_CS1_B (out), D2 DDR2_CS3_B (out), D3 VDD_DDR2@2 (power), D4 VREF0, D5 GND@5 (power), D6 VDD_DDR2@3 (power), D7 GND@6 (power), D8 VDD_DDR2@4 (power), D9 GND@7 (power), D10 GND@8 (power), D11 VREF1, D12 VDD_INT@0 (power), D13 DDR2_ADDR0 (out), D14 DDR2_ADDR02 (out), D15 DDR2_ADDR06 (out), D16 DDR2_ADDR10 (out), D17 GND@9 (power), D18 VDD_DDR2@5 (power), E1 DDR2_CKE (out), E2 VDD_DDR2@6 (power), E3 GND@10 (power), E4 VDD_DDR2@7 (power), E5 GND@11 (power), E6 VDD_INT@1 (power), E7 VDD_DDR2@8 (power), E8 VDD_INT@2 (power), E9 VDD_INT@3 (power), E10 VDD_DDR2@9 (power), E11 VDD_DDR2@10 (power), E12 GND@12 (power), E13 GND@13 (power), E14 VDD_INT@4 (power), E15 VDD_INT@5 (power), E16 GND@14 (power), E17 VDD_DDR2@11 (power), E18 LDAT0_0, F1 GND@15 (power), F2 GND@16 (power), F3 VDD_DDR2@12 (power), F4 GND@17 (power), F5 VDD_DDR2@13 (power), F6 VDD_INT@6 (power), F7 VDD_INT@7 (power), F8 VDD_INT@8 (power), F9 VDD_INT@9 (power), F10 VDD_INT@10 (power), F11 VDD_INT@11 (power), F12 VDD_INT@12 (power), F13 VDD_INT@13 (power), F14 GND@18 (power), F15 VDD_DDR2@14 (power), F16 GND@19 (power), F17 LDAT0_1, F18 LDAT0_2, G1 CLK_CFG0, G2 CLK_CFG1, G3 GND@20 (power), G4 GND@21 (power), G5 GND@22 (power), G6 VDD_INT@14 (power), G7 GND@23 (power), G8 GND@24 (power), G9 GND@25 (power), G10 GND@26 (power), G11 GND@27 (power), G12 GND@28 (power), G13 VDD_INT@15 (power), G14 VDD_DDR2@15 (power), G15 GND@29 (power), G16 VDD_DDR2@16 (power), G17 LDAT0_3, G18 LDAT0_4, H1 VDD_A (power), H2 AGND (power), H3 BOOT_CFG2, H4 GND@30 (power), H5 VDD_INT@16 (power), H6 VDD_INT@17 (power), H7 GND@31 (power), H8 GND@32 (power), H9 GND@33 (power), H10 GND@34 (power), H11 GND@35 (power), H12 GND@36 (power), H13 VDD_INT@18 (power), H14 VDD_INT@19 (power), H15 VDD_EXT@0 (power), H16 LDAT0_5, H17 LDAT0_6, H18 VDD_EXT@1 (power), J1 GND@37 (power), J2 BOOT_CFG0, J3 BOOT_CFG1, J4 AMI_RD_B (out), J5 VDD_EXT@2 (power), J6 VDD_INT@20 (power), J7 GND@38 (power), J8 GND@39 (power), J9 GND@40 (power), J10 GND@41 (power), J11 GND@42 (power), J12 GND@43 (power), J13 VDD_INT@21 (power), J14 GND@44 (power), J15 VDD_EXT@3 (power), J16 LDAT0_7, J17 GND@45 (power), J18 LCLK_0, K1 XTAL (out), K2 EMU_B (out), K3 MLBCLK, K4 MLBDAT, K5 GND@46 (power), K6 VDD_INT@22 (power), K7 GND@47 (power), K8 GND@48 (power), K9 GND@49 (power), K10 GND@50 (power), K11 GND@51 (power), K12 GND@52 (power), K13 VDD_INT@23 (power), K14 VDD_EXT@4 (power), K15 TCK, K16 TMS, K17 LACK_0, K18 LDAT1_0, L1 CLKIN, L2 MLBSIG, L3 MLBSO, L4 MLBDO, L5 VDD_EXT@5 (power), L6 VDD_INT@24 (power), L7 GND@53 (power), L8 GND@54 (power), L9 GND@55 (power), L10 GND@56 (power), L11 GND@57 (power), L12 GND@58 (power), L13 VDD_INT@25 (power), L14 GND@59 (power), L15 TDI, L16 LDAT1_1, L17 LDAT1_2, L18 LDAT1_3, M1 RESET_B, M2 CLKOUT, M3 DPI_P13, M4 DPI_P14, M5 GND@60 (power), M6 VDD_INT@26 (power), M7 GND@61 (power), M8 GND@62 (power), M9 GND@63 (power), M10 GND@64 (power), M11 GND@65 (power), M12 GND@66 (power), M13 VDD_INT@27 (power), M14 VDD_EXT@6 (power), M15 TDO (out), M16 LDAT1_4, M17 LDAT1_5, M18 VDD_EXT@7 (power), N1 DPI_P09, N2 DPI_P10, N3 DPI_P11, N4 DPI_P12, N5 VDD_EXT@8 (power), N6 VDD_INT@28 (power), N7 VDD_INT@29 (power), N8 VDD_INT@30 (power), N9 VDD_INT@31 (power), N10 VDD_THD (power), N11 THD_P, N12 THD_M, N13 VDD_INT@32 (power), N14 GND@67 (power), N15 TRST_B, N16 LDAT1_6, N17 GND@68 (power), N18 LCLK_1, P1 DPI_P05, P2 DPI_P06, P3 DPI_P07, P4 DPI_P08, P5 GND@69 (power), P6 VDD_EXT@9 (power), P7 GND@70 (power), P8 VDD_EXT@10 (power), P9 GND@71 (power), P10 VDD_EXT@11 (power), P11 GND@72 (power), P12 VDD_EXT@12 (power), P13 GND@73 (power), P14 VDD_EXT@13 (power), P15 VDD_EXT@14 (power), P16 LDAT1_7, P17 LACK_1, P18 AMI_DATA3, R1 DPI_P04, R2 DPI_P01, R3 DAI_P04, R4 DAI_P15, R5 DAI_P09, R6 DAI_P01, R7 DAI_P03, R8 FLAG0, R9 GND@74 (power), R10 AMI_ACK, R11 AMI_ADDR23, R12 AMI_ADDR19, R13 AMI_ADDR15, R14 AMI_ADDR11, R15 AMI_ADDR07, R16 AMI_ADDR03, R17 AMI_DATA7, R18 AMI_DATA2, T1 DPI_P03, T2 DAI_P20, T3 DAI_P18, T4 DAI_P12, T5 DAI_P06, T6 DAI_P19, T7 FLAG3, T8 VDD_EXT@15 (power), T9 VDD_EXT@16 (power), T10 AMI_MS0_B (out), T11 AMI_ADDR22, T12 AMI_ADDR18, T13 AMI_ADDR14, T14 AMI_ADDR10, T15 AMI_ADDR06, T16 AMI_ADDR02, T17 AMI_DATA6, T18 AMI_DATA1, U1 DPI_P02, U2 DAI_P14, U3 DAI_P17, U4 DAI_P11, U5 DAI_P05, U6 DAI_P13, U7 FLAG2, U8 VDD_EXT@17 (power), U9 VDD_EXT@18 (power), U10 AMI_MS1_B (out), U11 AMI_ADDR21, U12 AMI_ADDR17, U13 AMI_ADDR13, U14 AMI_ADDR09, U15 AMI_ADDR05, U16 AMI_ADDR01, U17 AMI_DATA5, U18 AMI_DATA0, V1 GND@75 (power), V2 DAI_P08, V3 DAI_P16, V4 DAI_P10, V5 DAI_P02, V6 DAI_P07, V7 FLAG1, V8 VDD_EXT@19 (power), V9 VDD_EXT@20 (power), V10 AMI_WR_B (out), V11 AMI_ADDR20, V12 AMI_ADDR16, V13 AMI_ADDR12, V14 AMI_ADDR08, V15 AMI_ADDR04, V16 AMI_ADDR0, V17 AMI_DATA4, V18 GND@76 (power)

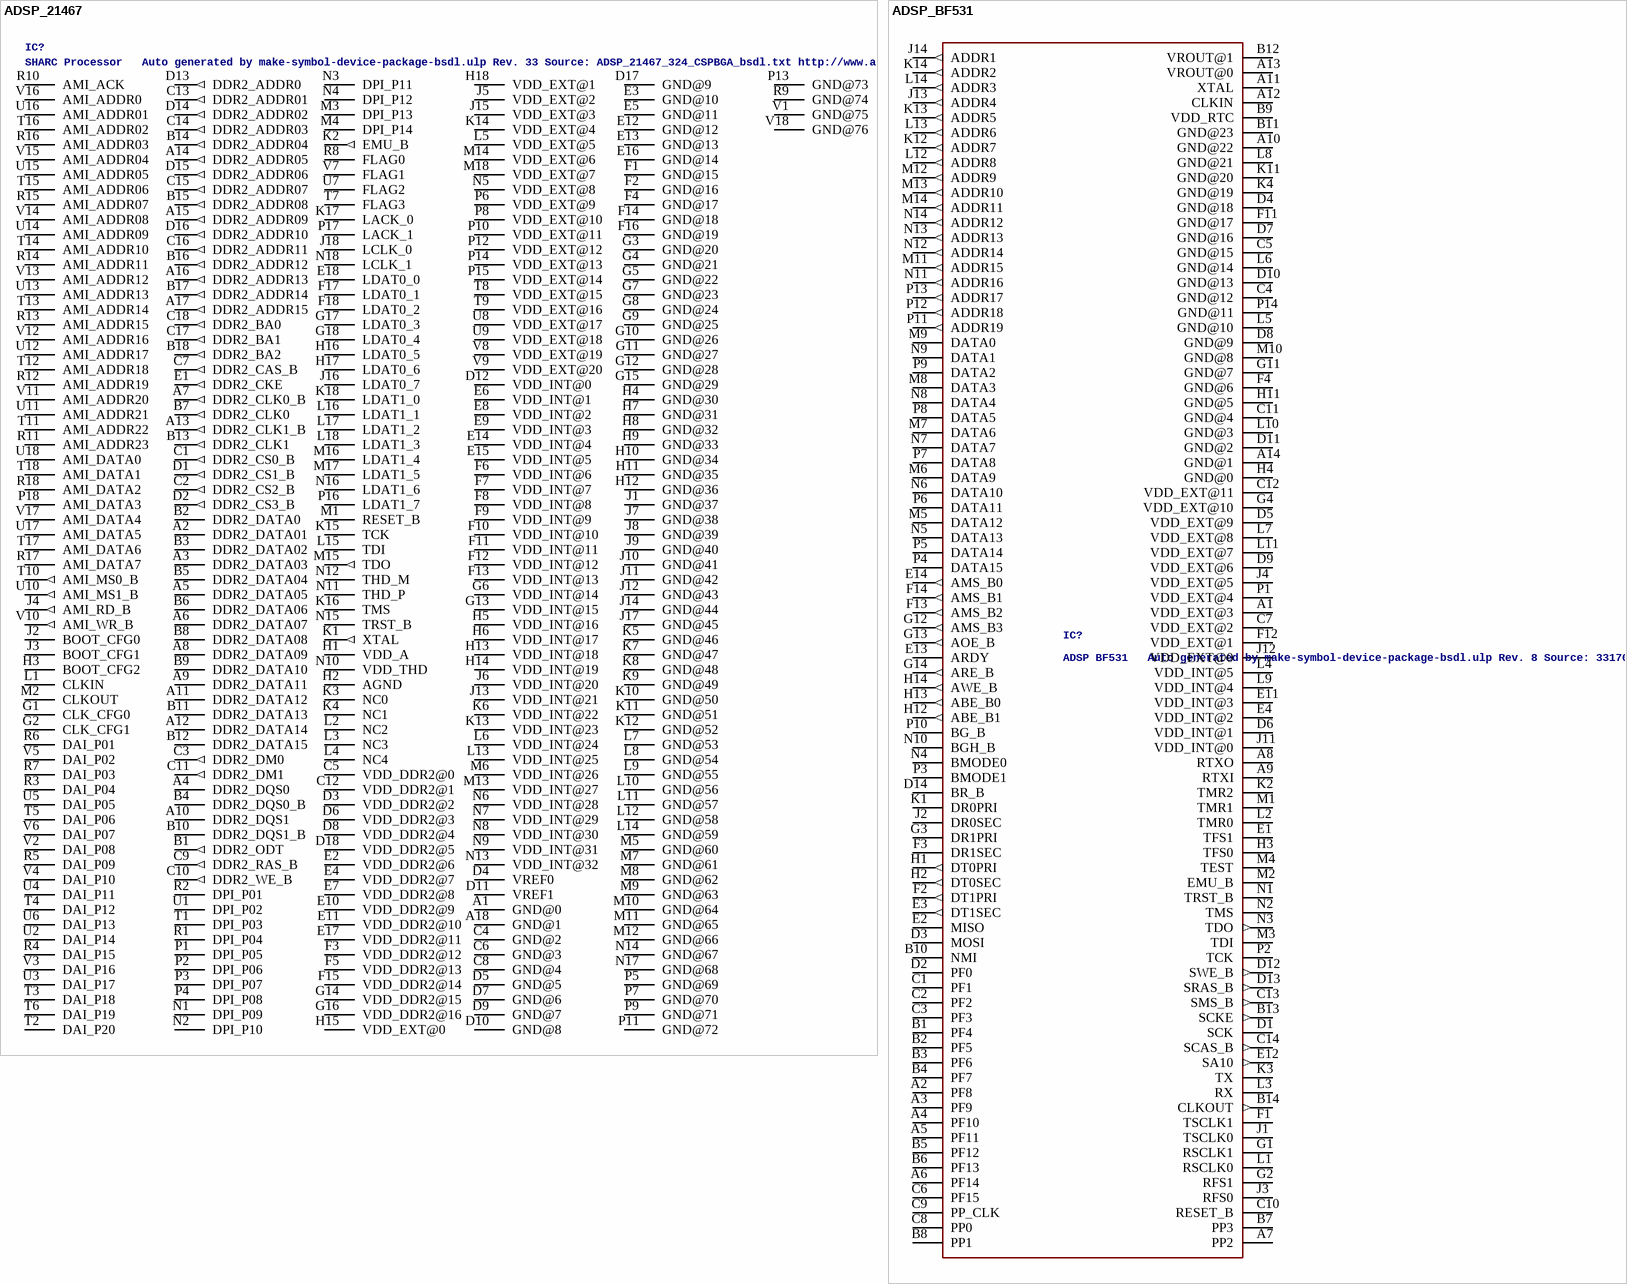
[diagram p28: symbols ADSP_21467 to ADSP_BF531]

## ADSP_21467
designator IC?, comment SHARC Processor   Auto generated by make-symbol-device-package-bsdl.ulp Rev. 33 Source: ADSP_21467_324_CSPBGA_bsdl.txt http://www.analog.com/static/imported-files/data_sheets/ADSP_21462W_21465W_21467_21469_21469W.pdf
OC_FARNELL: unknown; OC_NEWARK: unknown
footprint BGA_324_CSP
pins: A1 GND@0 (power), A2 DDR2_DATA01, A3 DDR2_DATA03, A4 DDR2_DQS0, A5 DDR2_DATA05, A6 DDR2_DATA07, A7 DDR2_CLK0_B (out), A8 DDR2_DATA09, A9 DDR2_DATA11, A10 DDR2_DQS1, A11 DDR2_DATA12, A12 DDR2_DATA14, A13 DDR2_CLK1_B (out), A14 DDR2_ADDR05 (out), A15 DDR2_ADDR09 (out), A16 DDR2_ADDR13 (out), A17 DDR2_ADDR15 (out), A18 GND@1 (power), B1 DDR2_ODT (out), B2 DDR2_DATA0, B3 DDR2_DATA02, B4 DDR2_DQS0_B, B5 DDR2_DATA04, B6 DDR2_DATA06, B7 DDR2_CLK0 (out), B8 DDR2_DATA08, B9 DDR2_DATA10, B10 DDR2_DQS1_B, B11 DDR2_DATA13, B12 DDR2_DATA15, B13 DDR2_CLK1 (out), B14 DDR2_ADDR04 (out), B15 DDR2_ADDR08 (out), B16 DDR2_ADDR12 (out), B17 DDR2_ADDR14 (out), B18 DDR2_BA2 (out), C1 DDR2_CS0_B (out), C2 DDR2_CS2_B (out), C3 DDR2_DM0 (out), C4 GND@2 (power), C5 VDD_DDR2@0 (power), C6 GND@3 (power), C7 DDR2_CAS_B (out), C8 GND@4 (power), C9 DDR2_RAS_B (out), C10 DDR2_WE_B (out), C11 DDR2_DM1 (out), C12 VDD_DDR2@1 (power), C13 DDR2_ADDR01 (out), C14 DDR2_ADDR03 (out), C15 DDR2_ADDR07 (out), C16 DDR2_ADDR11 (out), C17 DDR2_BA1 (out), C18 DDR2_BA0 (out), D1 DDR2_CS1_B (out), D2 DDR2_CS3_B (out), D3 VDD_DDR2@2 (power), D4 VREF0, D5 GND@5 (power), D6 VDD_DDR2@3 (power), D7 GND@6 (power), D8 VDD_DDR2@4 (power), D9 GND@7 (power), D10 GND@8 (power), D11 VREF1, D12 VDD_INT@0 (power), D13 DDR2_ADDR0 (out), D14 DDR2_ADDR02 (out), D15 DDR2_ADDR06 (out), D16 DDR2_ADDR10 (out), D17 GND@9 (power), D18 VDD_DDR2@5 (power), E1 DDR2_CKE (out), E2 VDD_DDR2@6 (power), E3 GND@10 (power), E4 VDD_DDR2@7 (power), E5 GND@11 (power), E6 VDD_INT@1 (power), E7 VDD_DDR2@8 (power), E8 VDD_INT@2 (power), E9 VDD_INT@3 (power), E10 VDD_DDR2@9 (power), E11 VDD_DDR2@10 (power), E12 GND@12 (power), E13 GND@13 (power), E14 VDD_INT@4 (power), E15 VDD_INT@5 (power), E16 GND@14 (power), E17 VDD_DDR2@11 (power), E18 LDAT0_0, F1 GND@15 (power), F2 GND@16 (power), F3 VDD_DDR2@12 (power), F4 GND@17 (power), F5 VDD_DDR2@13 (power), F6 VDD_INT@6 (power), F7 VDD_INT@7 (power), F8 VDD_INT@8 (power), F9 VDD_INT@9 (power), F10 VDD_INT@10 (power), F11 VDD_INT@11 (power), F12 VDD_INT@12 (power), F13 VDD_INT@13 (power), F14 GND@18 (power), F15 VDD_DDR2@14 (power), F16 GND@19 (power), F17 LDAT0_1, F18 LDAT0_2, G1 CLK_CFG0, G2 CLK_CFG1, G3 GND@20 (power), G4 GND@21 (power), G5 GND@22 (power), G6 VDD_INT@14 (power), G7 GND@23 (power), G8 GND@24 (power), G9 GND@25 (power), G10 GND@26 (power), G11 GND@27 (power), G12 GND@28 (power), G13 VDD_INT@15 (power), G14 VDD_DDR2@15 (power), G15 GND@29 (power), G16 VDD_DDR2@16 (power), G17 LDAT0_3, G18 LDAT0_4, H1 VDD_A (power), H2 AGND (power), H3 BOOT_CFG2, H4 GND@30 (power), H5 VDD_INT@16 (power), H6 VDD_INT@17 (power), H7 GND@31 (power), H8 GND@32 (power), H9 GND@33 (power), H10 GND@34 (power), H11 GND@35 (power), H12 GND@36 (power), H13 VDD_INT@18 (power), H14 VDD_INT@19 (power), H15 VDD_EXT@0 (power), H16 LDAT0_5, H17 LDAT0_6, H18 VDD_EXT@1 (power), J1 GND@37 (power), J2 BOOT_CFG0, J3 BOOT_CFG1, J4 AMI_RD_B (out), J5 VDD_EXT@2 (power), J6 VDD_INT@20 (power), J7 GND@38 (power), J8 GND@39 (power), J9 GND@40 (power), J10 GND@41 (power), J11 GND@42 (power), J12 GND@43 (power), J13 VDD_INT@21 (power), J14 GND@44 (power), J15 VDD_EXT@3 (power), J16 LDAT0_7, J17 GND@45 (power), J18 LCLK_0, K1 XTAL (out), K2 EMU_B (out), K3 NC0, K4 NC1, K5 GND@46 (power), K6 VDD_INT@22 (power), K7 GND@47 (power), K8 GND@48 (power), K9 GND@49 (power), K10 GND@50 (power), K11 GND@51 (power), K12 GND@52 (power), K13 VDD_INT@23 (power), K14 VDD_EXT@4 (power), K15 TCK, K16 TMS, K17 LACK_0, K18 LDAT1_0, L1 CLKIN, L2 NC2, L3 NC3, L4 NC4, L5 VDD_EXT@5 (power), L6 VDD_INT@24 (power), L7 GND@53 (power), L8 GND@54 (power), L9 GND@55 (power), L10 GND@56 (power), L11 GND@57 (power), L12 GND@58 (power), L13 VDD_INT@25 (power), L14 GND@59 (power), L15 TDI, L16 LDAT1_1, L17 LDAT1_2, L18 LDAT1_3, M1 RESET_B, M2 CLKOUT, M3 DPI_P13, M4 DPI_P14, M5 GND@60 (power), M6 VDD_INT@26 (power), M7 GND@61 (power), M8 GND@62 (power), M9 GND@63 (power), M10 GND@64 (power), M11 GND@65 (power), M12 GND@66 (power), M13 VDD_INT@27 (power), M14 VDD_EXT@6 (power), M15 TDO (out), M16 LDAT1_4, M17 LDAT1_5, M18 VDD_EXT@7 (power), N1 DPI_P09, N2 DPI_P10, N3 DPI_P11, N4 DPI_P12, N5 VDD_EXT@8 (power), N6 VDD_INT@28 (power), N7 VDD_INT@29 (power), N8 VDD_INT@30 (power), N9 VDD_INT@31 (power), N10 VDD_THD (power), N11 THD_P, N12 THD_M, N13 VDD_INT@32 (power), N14 GND@67 (power), N15 TRST_B, N16 LDAT1_6, N17 GND@68 (power), N18 LCLK_1, P1 DPI_P05, P2 DPI_P06, P3 DPI_P07, P4 DPI_P08, P5 GND@69 (power), P6 VDD_EXT@9 (power), P7 GND@70 (power), P8 VDD_EXT@10 (power), P9 GND@71 (power), P10 VDD_EXT@11 (power), P11 GND@72 (power), P12 VDD_EXT@12 (power), P13 GND@73 (power), P14 VDD_EXT@13 (power), P15 VDD_EXT@14 (power), P16 LDAT1_7, P17 LACK_1, P18 AMI_DATA3, R1 DPI_P04, R2 DPI_P01, R3 DAI_P04, R4 DAI_P15, R5 DAI_P09, R6 DAI_P01, R7 DAI_P03, R8 FLAG0, R9 GND@74 (power), R10 AMI_ACK, R11 AMI_ADDR23, R12 AMI_ADDR19, R13 AMI_ADDR15, R14 AMI_ADDR11, R15 AMI_ADDR07, R16 AMI_ADDR03, R17 AMI_DATA7, R18 AMI_DATA2, T1 DPI_P03, T2 DAI_P20, T3 DAI_P18, T4 DAI_P12, T5 DAI_P06, T6 DAI_P19, T7 FLAG3, T8 VDD_EXT@15 (power), T9 VDD_EXT@16 (power), T10 AMI_MS0_B (out), T11 AMI_ADDR22, T12 AMI_ADDR18, T13 AMI_ADDR14, T14 AMI_ADDR10, T15 AMI_ADDR06, T16 AMI_ADDR02, T17 AMI_DATA6, T18 AMI_DATA1, U1 DPI_P02, U2 DAI_P14, U3 DAI_P17, U4 DAI_P11, U5 DAI_P05, U6 DAI_P13, U7 FLAG2, U8 VDD_EXT@17 (power), U9 VDD_EXT@18 (power), U10 AMI_MS1_B (out), U11 AMI_ADDR21, U12 AMI_ADDR17, U13 AMI_ADDR13, U14 AMI_ADDR09, U15 AMI_ADDR05, U16 AMI_ADDR01, U17 AMI_DATA5, U18 AMI_DATA0, V1 GND@75 (power), V2 DAI_P08, V3 DAI_P16, V4 DAI_P10, V5 DAI_P02, V6 DAI_P07, V7 FLAG1, V8 VDD_EXT@19 (power), V9 VDD_EXT@20 (power), V10 AMI_WR_B (out), V11 AMI_ADDR20, V12 AMI_ADDR16, V13 AMI_ADDR12, V14 AMI_ADDR08, V15 AMI_ADDR04, V16 AMI_ADDR0, V17 AMI_DATA4, V18 GND@76 (power)

## ADSP_BF531
designator IC?, comment ADSP BF531   Auto generated by make-symbol-device-package-bsdl.ulp Rev. 8 Source: 33170285923617ADSP_BF531_mbga.bsdl
OC_FARNELL: unknown; OC_NEWARK: unknown
footprint MBGA_160
pins: A1 VDD_EXT@3 (power), A2 PF8, A3 PF9, A4 PF10, A5 PF11, A6 PF14, A7 PP2, A8 RTXO (power), A9 RTXI (power), A10 GND@22 (power), A11 XTAL (power), A12 CLKIN (power), A13 VROUT@0 (power), A14 GND@1 (power), B1 PF4, B2 PF5, B3 PF6, B4 PF7, B5 PF12, B6 PF13, B7 PP3, B8 PP1, B9 VDD_RTC (power), B10 NMI, B11 GND@23 (power), B12 VROUT@1 (power), B13 SCKE (out), B14 CLKOUT (out), C1 PF1, C2 PF2, C3 PF3, C4 GND@12 (power), C5 GND@15 (power), C6 PF15, C7 VDD_EXT@2 (power), C8 PP0, C9 PP_CLK, C10 RESET_B, C11 GND@4 (power), C12 VDD_EXT@11 (power), C13 SMS_B (out), C14 SCAS_B (out), D1 SCK, D2 PF0, D3 MOSI, D4 GND@18 (power), D5 VDD_EXT@9 (power), D6 VDD_INT@1 (power), D7 GND@16 (power), D8 GND@9 (power), D9 VDD_EXT@6 (power), D10 GND@13 (power), D11 GND@2 (power), D12 SWE_B (out), D13 SRAS_B (out), D14 BR_B, E1 TFS1, E2 MISO, E3 DT1SEC (out), E4 VDD_INT@2 (power), E11 VDD_INT@3 (power), E12 SA10 (out), E13 ARDY, E14 AMS_B0 (out), F1 TSCLK1, F2 DT1PRI (out), F3 DR1SEC, F4 GND@6 (power), F11 GND@17 (power), F12 VDD_EXT@1 (power), F13 AMS_B2 (out), F14 AMS_B1 (out), G1 RSCLK1, G2 RFS1, G3 DR1PRI, G4 VDD_EXT@10 (power), G11 GND@7 (power), G12 AMS_B3 (out), G13 AOE_B (out), G14 ARE_B (out), H1 DT0PRI (out), H2 DT0SEC (out), H3 TFS0, H4 GND@0 (power), H11 GND@5 (power), H12 ABE_B1 (out), H13 ABE_B0 (out), H14 AWE_B (out), J1 TSCLK0, J2 DR0SEC, J3 RFS0, J4 VDD_EXT@5 (power), J11 VDD_INT@0 (power), J12 VDD_EXT@0 (power), J13 ADDR4 (out), J14 ADDR1 (out), K1 DR0PRI, K2 TMR2, K3 TX (hiz), K4 GND@19 (power), K11 GND@20 (power), K12 ADDR7 (out), K13 ADDR5 (out), K14 ADDR2 (out), L1 RSCLK0, L2 TMR0, L3 RX, L4 VDD_INT@5 (power), L5 GND@10 (power), L6 GND@14 (power), L7 VDD_EXT@8 (power), L8 GND@21 (power), L9 VDD_INT@4 (power), L10 GND@3 (power), L11 VDD_EXT@7 (power), L12 ADDR8 (out), L13 ADDR6 (out), L14 ADDR3 (out), M1 TMR1, M2 EMU_B (power), M3 TDI, M4 TEST, M5 DATA12, M6 DATA9, M7 DATA6, M8 DATA3, M9 DATA0, M10 GND@8 (power), M11 ADDR15 (out), M12 ADDR9 (out), M13 ADDR10 (out), M14 ADDR11 (out), N1 TRST_B, N2 TMS, N3 TDO (out), N4 BMODE0, N5 DATA13, N6 DATA10, N7 DATA7, N8 DATA4, N9 DATA1, N10 BGH_B (hiz), N11 ADDR16 (out), N12 ADDR14 (out), N13 ADDR13 (out), N14 ADDR12 (out), P1 VDD_EXT@4 (power), P2 TCK, P3 BMODE1, P4 DATA15, P5 DATA14, P6 DATA11, P7 DATA8, P8 DATA5, P9 DATA2, P10 BG_B (hiz), P11 ADDR19 (out), P12 ADDR18 (out), P13 ADDR17 (out), P14 GND@11 (power)

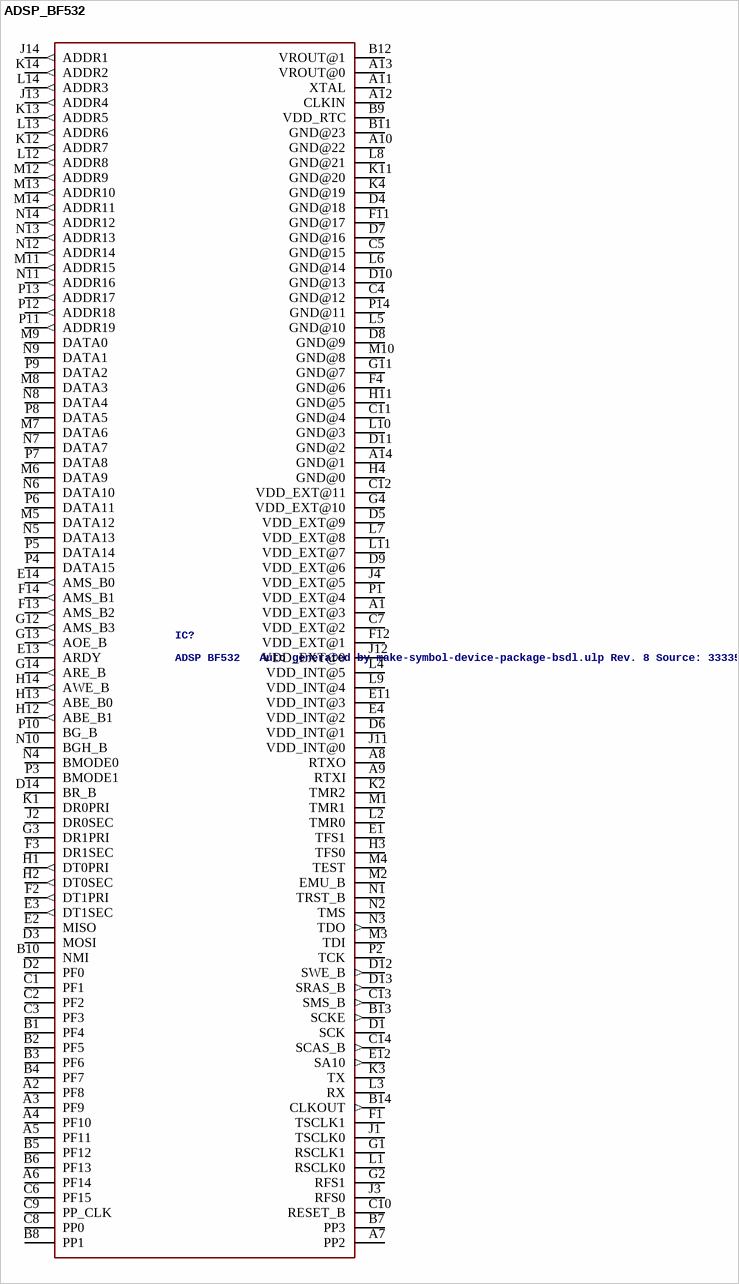
[diagram p29: symbol ADSP_BF532]

## ADSP_BF532
designator IC?, comment ADSP BF532   Auto generated by make-symbol-device-package-bsdl.ulp Rev. 8 Source: 33335272594765ADSP_BF532_mbga.bsdl
OC_FARNELL: unknown; OC_NEWARK: unknown
footprint MBGA_160
pins: A1 VDD_EXT@3 (power), A2 PF8, A3 PF9, A4 PF10, A5 PF11, A6 PF14, A7 PP2, A8 RTXO (power), A9 RTXI (power), A10 GND@22 (power), A11 XTAL (power), A12 CLKIN (power), A13 VROUT@0 (power), A14 GND@1 (power), B1 PF4, B2 PF5, B3 PF6, B4 PF7, B5 PF12, B6 PF13, B7 PP3, B8 PP1, B9 VDD_RTC (power), B10 NMI, B11 GND@23 (power), B12 VROUT@1 (power), B13 SCKE (out), B14 CLKOUT (out), C1 PF1, C2 PF2, C3 PF3, C4 GND@12 (power), C5 GND@15 (power), C6 PF15, C7 VDD_EXT@2 (power), C8 PP0, C9 PP_CLK, C10 RESET_B, C11 GND@4 (power), C12 VDD_EXT@11 (power), C13 SMS_B (out), C14 SCAS_B (out), D1 SCK, D2 PF0, D3 MOSI, D4 GND@18 (power), D5 VDD_EXT@9 (power), D6 VDD_INT@1 (power), D7 GND@16 (power), D8 GND@9 (power), D9 VDD_EXT@6 (power), D10 GND@13 (power), D11 GND@2 (power), D12 SWE_B (out), D13 SRAS_B (out), D14 BR_B, E1 TFS1, E2 MISO, E3 DT1SEC (out), E4 VDD_INT@2 (power), E11 VDD_INT@3 (power), E12 SA10 (out), E13 ARDY, E14 AMS_B0 (out), F1 TSCLK1, F2 DT1PRI (out), F3 DR1SEC, F4 GND@6 (power), F11 GND@17 (power), F12 VDD_EXT@1 (power), F13 AMS_B2 (out), F14 AMS_B1 (out), G1 RSCLK1, G2 RFS1, G3 DR1PRI, G4 VDD_EXT@10 (power), G11 GND@7 (power), G12 AMS_B3 (out), G13 AOE_B (out), G14 ARE_B (out), H1 DT0PRI (out), H2 DT0SEC (out), H3 TFS0, H4 GND@0 (power), H11 GND@5 (power), H12 ABE_B1 (out), H13 ABE_B0 (out), H14 AWE_B (out), J1 TSCLK0, J2 DR0SEC, J3 RFS0, J4 VDD_EXT@5 (power), J11 VDD_INT@0 (power), J12 VDD_EXT@0 (power), J13 ADDR4 (out), J14 ADDR1 (out), K1 DR0PRI, K2 TMR2, K3 TX (hiz), K4 GND@19 (power), K11 GND@20 (power), K12 ADDR7 (out), K13 ADDR5 (out), K14 ADDR2 (out), L1 RSCLK0, L2 TMR0, L3 RX, L4 VDD_INT@5 (power), L5 GND@10 (power), L6 GND@14 (power), L7 VDD_EXT@8 (power), L8 GND@21 (power), L9 VDD_INT@4 (power), L10 GND@3 (power), L11 VDD_EXT@7 (power), L12 ADDR8 (out), L13 ADDR6 (out), L14 ADDR3 (out), M1 TMR1, M2 EMU_B (power), M3 TDI, M4 TEST, M5 DATA12, M6 DATA9, M7 DATA6, M8 DATA3, M9 DATA0, M10 GND@8 (power), M11 ADDR15 (out), M12 ADDR9 (out), M13 ADDR10 (out), M14 ADDR11 (out), N1 TRST_B, N2 TMS, N3 TDO (out), N4 BMODE0, N5 DATA13, N6 DATA10, N7 DATA7, N8 DATA4, N9 DATA1, N10 BGH_B (hiz), N11 ADDR16 (out), N12 ADDR14 (out), N13 ADDR13 (out), N14 ADDR12 (out), P1 VDD_EXT@4 (power), P2 TCK, P3 BMODE1, P4 DATA15, P5 DATA14, P6 DATA11, P7 DATA8, P8 DATA5, P9 DATA2, P10 BG_B (hiz), P11 ADDR19 (out), P12 ADDR18 (out), P13 ADDR17 (out), P14 GND@11 (power)

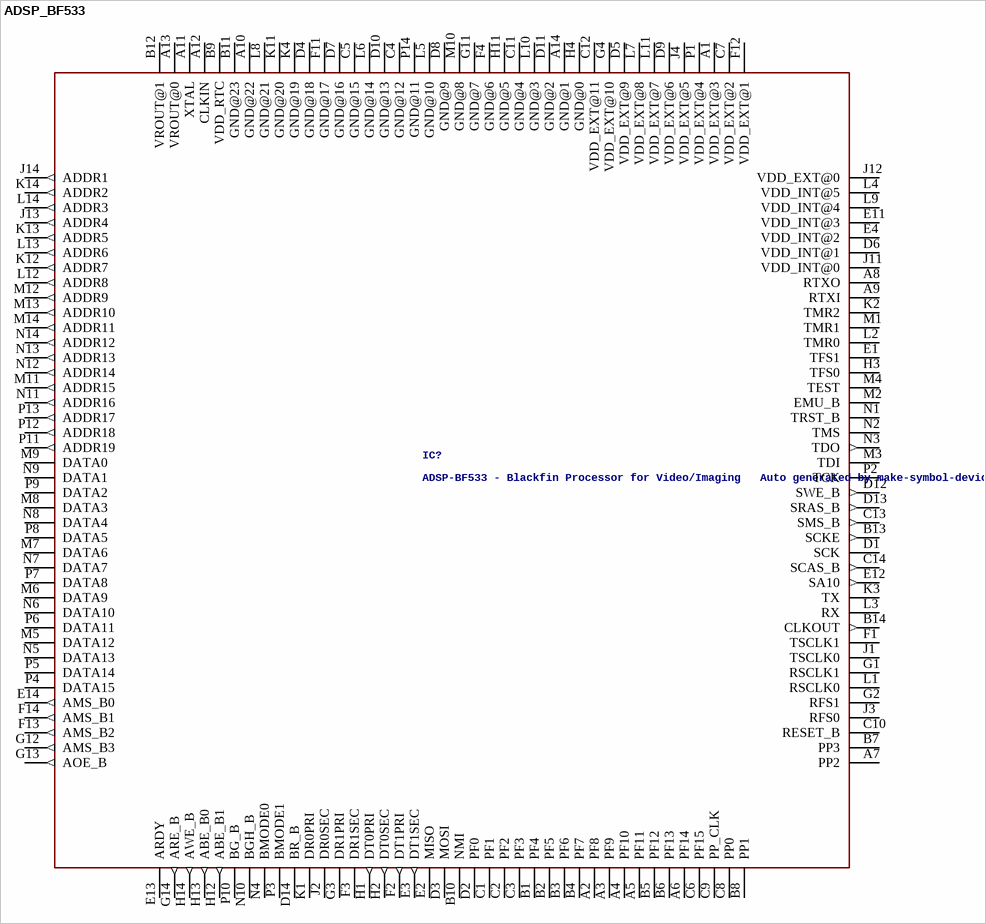
[diagram p30: symbol ADSP_BF533]

## ADSP_BF533
designator IC?, comment ADSP-BF533 - Blackfin Processor for Video/Imaging   Auto generated by make-symbol-device-package-bsdl.ulp Source: 33260205658992ADSP_BF533_mbga.bsdl
OC_FARNELL: 1465585; OC_NEWARK: unknown
footprint MBGA_160
pins: A1 VDD_EXT@3 (power), A2 PF8, A3 PF9, A4 PF10, A5 PF11, A6 PF14, A7 PP2, A8 RTXO (power), A9 RTXI (power), A10 GND@22 (power), A11 XTAL (power), A12 CLKIN (power), A13 VROUT@0 (power), A14 GND@1 (power), B1 PF4, B2 PF5, B3 PF6, B4 PF7, B5 PF12, B6 PF13, B7 PP3, B8 PP1, B9 VDD_RTC (power), B10 NMI, B11 GND@23 (power), B12 VROUT@1 (power), B13 SCKE (out), B14 CLKOUT (out), C1 PF1, C2 PF2, C3 PF3, C4 GND@12 (power), C5 GND@15 (power), C6 PF15, C7 VDD_EXT@2 (power), C8 PP0, C9 PP_CLK, C10 RESET_B, C11 GND@4 (power), C12 VDD_EXT@11 (power), C13 SMS_B (out), C14 SCAS_B (out), D1 SCK, D2 PF0, D3 MOSI, D4 GND@18 (power), D5 VDD_EXT@9 (power), D6 VDD_INT@1 (power), D7 GND@16 (power), D8 GND@9 (power), D9 VDD_EXT@6 (power), D10 GND@13 (power), D11 GND@2 (power), D12 SWE_B (out), D13 SRAS_B (out), D14 BR_B, E1 TFS1, E2 MISO, E3 DT1SEC (out), E4 VDD_INT@2 (power), E11 VDD_INT@3 (power), E12 SA10 (out), E13 ARDY, E14 AMS_B0 (out), F1 TSCLK1, F2 DT1PRI (out), F3 DR1SEC, F4 GND@6 (power), F11 GND@17 (power), F12 VDD_EXT@1 (power), F13 AMS_B2 (out), F14 AMS_B1 (out), G1 RSCLK1, G2 RFS1, G3 DR1PRI, G4 VDD_EXT@10 (power), G11 GND@7 (power), G12 AMS_B3 (out), G13 AOE_B (out), G14 ARE_B (out), H1 DT0PRI (out), H2 DT0SEC (out), H3 TFS0, H4 GND@0 (power), H11 GND@5 (power), H12 ABE_B1 (out), H13 ABE_B0 (out), H14 AWE_B (out), J1 TSCLK0, J2 DR0SEC, J3 RFS0, J4 VDD_EXT@5 (power), J11 VDD_INT@0 (power), J12 VDD_EXT@0 (power), J13 ADDR4 (out), J14 ADDR1 (out), K1 DR0PRI, K2 TMR2, K3 TX (hiz), K4 GND@19 (power), K11 GND@20 (power), K12 ADDR7 (out), K13 ADDR5 (out), K14 ADDR2 (out), L1 RSCLK0, L2 TMR0, L3 RX, L4 VDD_INT@5 (power), L5 GND@10 (power), L6 GND@14 (power), L7 VDD_EXT@8 (power), L8 GND@21 (power), L9 VDD_INT@4 (power), L10 GND@3 (power), L11 VDD_EXT@7 (power), L12 ADDR8 (out), L13 ADDR6 (out), L14 ADDR3 (out), M1 TMR1, M2 EMU_B (power), M3 TDI, M4 TEST, M5 DATA12, M6 DATA9, M7 DATA6, M8 DATA3, M9 DATA0, M10 GND@8 (power), M11 ADDR15 (out), M12 ADDR9 (out), M13 ADDR10 (out), M14 ADDR11 (out), N1 TRST_B, N2 TMS, N3 TDO (out), N4 BMODE0, N5 DATA13, N6 DATA10, N7 DATA7, N8 DATA4, N9 DATA1, N10 BGH_B (hiz), N11 ADDR16 (out), N12 ADDR14 (out), N13 ADDR13 (out), N14 ADDR12 (out), P1 VDD_EXT@4 (power), P2 TCK, P3 BMODE1, P4 DATA15, P5 DATA14, P6 DATA11, P7 DATA8, P8 DATA5, P9 DATA2, P10 BG_B (hiz), P11 ADDR19 (out), P12 ADDR18 (out), P13 ADDR17 (out), P14 GND@11 (power)

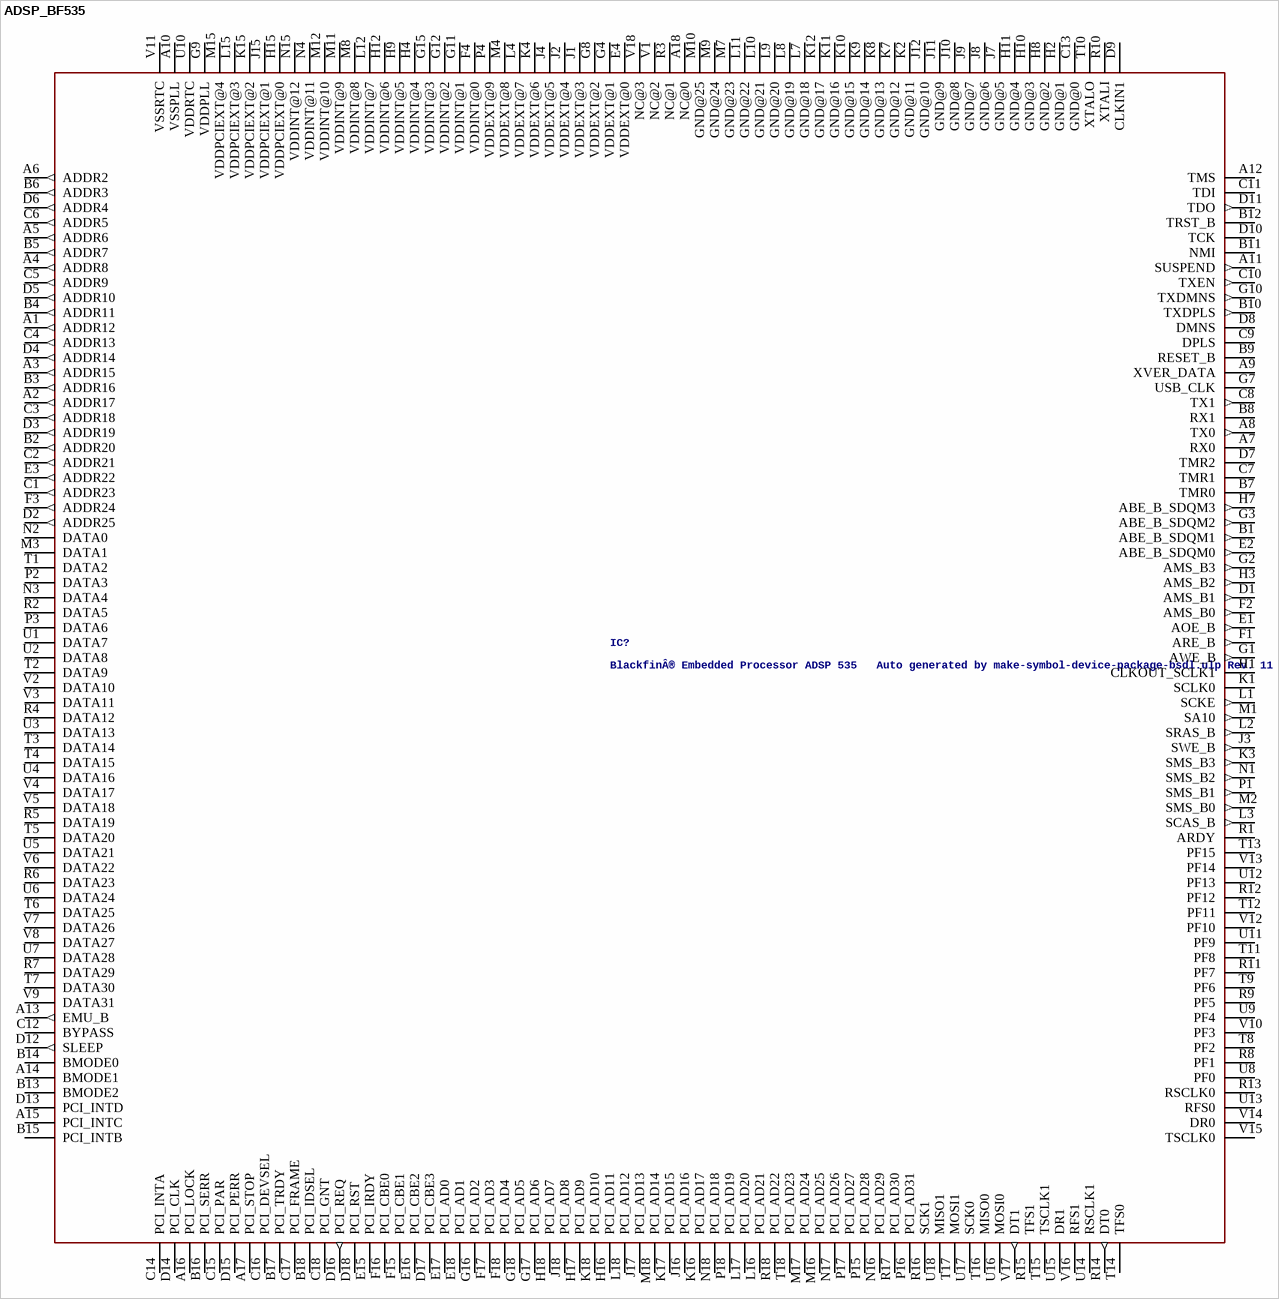
[diagram p31: symbol ADSP_BF535]

## ADSP_BF535
designator IC?, comment BlackfinÂ® Embedded Processor ADSP 535   Auto generated by make-symbol-device-package-bsdl.ulp Rev. 11 Source: ADSP_21535.bsdl http://www.analog.com/UploadedFiles/Data_Sheets/744511807ADSP_BF535_a.pdf
OC_FARNELL: 1439074; OC_NEWARK: unknown
footprint PBGA_B260
pins: A1 ADDR12 (out), A2 ADDR17 (out), A3 ADDR15 (out), A4 ADDR8 (out), A5 ADDR6 (out), A6 ADDR2 (out), A7 RX0, A8 TX0 (out), A9 XVER_DATA, A10 VSSPLL (power), A11 SUSPEND (out), A12 TMS, A13 EMU_B (out), A14 BMODE1, A15 PCI_INTC, A16 PCI_LOCK, A17 PCI_STOP, A18 NC@0 (power), B1 ABE_B_SDQM1 (out), B2 ADDR20 (out), B3 ADDR16 (out), B4 ADDR11 (out), B5 ADDR7 (out), B6 ADDR3 (out), B7 TMR0, B8 RX1, B9 RESET_B, B10 TXDPLS (out), B11 NMI, B12 TRST_B, B13 BMODE2, B14 BMODE0, B15 PCI_INTB, B16 PCI_SERR, B17 PCI_TRDY, B18 PCI_IDSEL, C1 ADDR23 (out), C2 ADDR21 (out), C3 ADDR18 (out), C4 ADDR13 (out), C5 ADDR9 (out), C6 ADDR5 (out), C7 TMR1, C8 TX1 (out), C9 DPLS, C10 TXEN (out), C11 TDI, C12 BYPASS, C13 GND@0 (power), C14 PCI_INTA, C15 PCI_PAR, C16 PCI_DEVSEL, C17 PCI_FRAME, C18 PCI_GNT, D1 AMS_B1 (out), D2 ADDR25 (out), D3 ADDR19 (out), D4 ADDR14 (out), D5 ADDR10 (out), D6 ADDR4 (out), D7 TMR2, D8 DMNS, D9 CLKIN1 (power), D10 TCK, D11 TDO (out), D12 SLEEP (out), D13 PCI_INTD, D14 PCI_CLK, D15 PCI_PERR, D16 PCI_REQ (out), D17 PCI_CBE3, D18 PCI_RST, E1 AOE_B (out), E2 ABE_B_SDQM0 (out), E3 ADDR22 (out), E4 VDDEXT@0 (power), E15 PCI_IRDY, E16 PCI_CBE2, E17 PCI_AD0, E18 PCI_AD1, F1 ARE_B (out), F2 AMS_B0 (out), F3 ADDR24 (out), F4 VDDINT@0 (power), F15 PCI_CBE1, F16 PCI_CBE0, F17 PCI_AD3, F18 PCI_AD4, G1 AWE_B (out), G2 AMS_B3 (out), G3 ABE_B_SDQM2 (out), G4 VDDEXT@1 (power), G7 USB_CLK, G8 VDDEXT@2 (power), G9 VDDPLL (power), G10 TXDMNS (out), G11 VDDINT@1 (power), G12 VDDINT@2 (power), G15 VDDINT@3 (power), G16 PCI_AD2, G17 PCI_AD6, G18 PCI_AD5, H1 CLKOUT_SCLK1 (hiz), H2 GND@1 (power), H3 AMS_B2 (out), H4 VDDINT@4 (power), H7 ABE_B_SDQM3 (out), H8 GND@2 (power), H9 VDDINT@5 (power), H10 GND@3 (power), H11 GND@4 (power), H12 VDDINT@6 (power), H15 VDDPCIEXT@0 (power), H16 PCI_AD11, H17 PCI_AD9, H18 PCI_AD7, J1 VDDEXT@3 (power), J2 VDDEXT@4 (power), J3 SWE_B (out), J4 VDDEXT@5 (power), J7 GND@5 (power), J8 GND@6 (power), J9 GND@7 (power), J10 GND@8 (power), J11 GND@9 (power), J12 GND@10 (power), J15 VDDPCIEXT@1 (power), J16 PCI_AD16, J17 PCI_AD13, J18 PCI_AD8, K1 SCLK0 (hiz), K2 GND@11 (power), K3 SMS_B3 (out), K4 VDDEXT@6 (power), K7 GND@12 (power), K8 GND@13 (power), K9 GND@14 (power), K10 GND@15 (power), K11 GND@16 (power), K12 GND@17 (power), K15 VDDPCIEXT@2 (power), K16 PCI_AD17, K17 PCI_AD15, K18 PCI_AD10, L1 SCKE (out), L2 SRAS_B (out), L3 SCAS_B (out), L4 VDDEXT@7 (power), L7 GND@18 (power), L8 GND@19 (power), L9 GND@20 (power), L10 GND@21 (power), L11 GND@22 (power), L12 VDDINT@7 (power), L15 VDDPCIEXT@3 (power), L16 PCI_AD21, L17 PCI_AD20, L18 PCI_AD12, M1 SA10 (out), M2 SMS_B0 (out), M3 DATA1, M4 VDDEXT@8 (power), M7 GND@23 (power), M8 VDDINT@8 (power), M9 GND@24 (power), M10 GND@25 (power), M11 VDDINT@9 (power), M12 VDDINT@10 (power), M15 VDDPCIEXT@4 (power), M16 PCI_AD25, M17 PCI_AD24, M18 PCI_AD14, N1 SMS_B2 (out), N2 DATA0, N3 DATA4, N4 VDDINT@11 (power), N15 VDDINT@12 (power), N16 PCI_AD29, N17 PCI_AD26, N18 PCI_AD18, P1 SMS_B1 (out), P2 DATA3, P3 DATA6, P4 VDDEXT@9 (power), P15 PCI_AD28, P16 PCI_AD31, P17 PCI_AD27, P18 PCI_AD19, R1 ARDY, R2 DATA5, R3 NC@1 (power), R4 DATA12, R5 DATA19, R6 DATA23, R7 DATA29, R8 PF1, R9 PF5, R10 XTALI (power), R11 PF7, R12 PF12, R13 RSCLK0, R14 DT0 (out), R15 TFS1, R16 SCK1, R17 PCI_AD30, R18 PCI_AD22, T1 DATA2, T2 DATA9, T3 DATA14, T4 DATA15, T5 DATA20, T6 DATA25, T7 DATA30, T8 PF2, T9 PF6, T10 XTALO (power), T11 PF8, T12 PF11, T13 PF15, T14 TFS0, T15 TSCLK1, T16 MISO0, T17 MOSI1, T18 PCI_AD23, U1 DATA7, U2 DATA8, U3 DATA13, U4 DATA16, U5 DATA21, U6 DATA24, U7 DATA28, U8 PF0, U9 PF4, U10 VDDRTC (power), U11 PF9, U12 PF13, U13 RFS0, U14 RSCLK1, U15 DR1, U16 MOSI0, U17 SCK0, U18 MISO1, V1 NC@2 (power), V2 DATA10, V3 DATA11, V4 DATA17, V5 DATA18, V6 DATA22, V7 DATA26, V8 DATA27, V9 DATA31, V10 PF3, V11 VSSRTC (power), V12 PF10, V13 PF14, V14 DR0, V15 TSCLK0, V16 RFS1, V17 DT1 (out), V18 NC@3 (power)

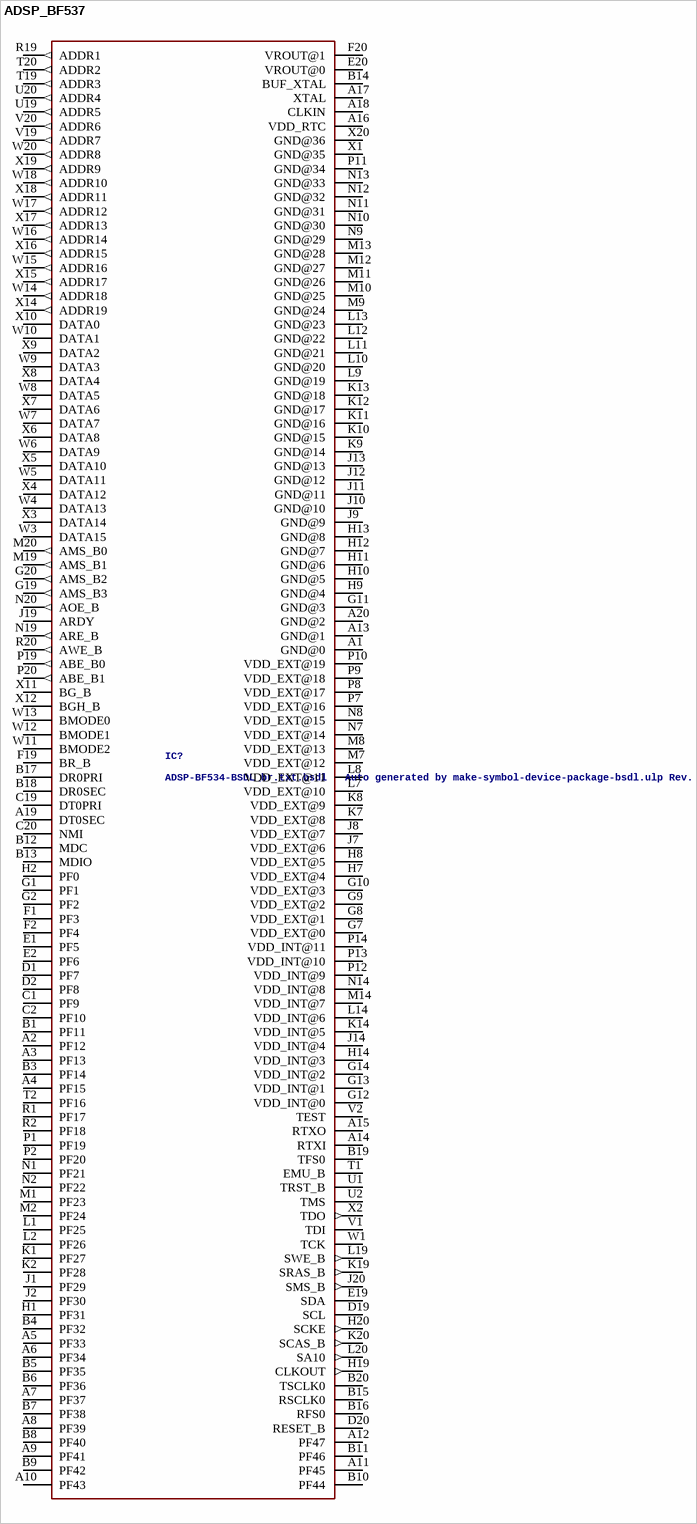
[diagram p32: symbol ADSP_BF537]